# Altium integrated library con-amp.IntLib: 238 symbols (part 2 of 3)
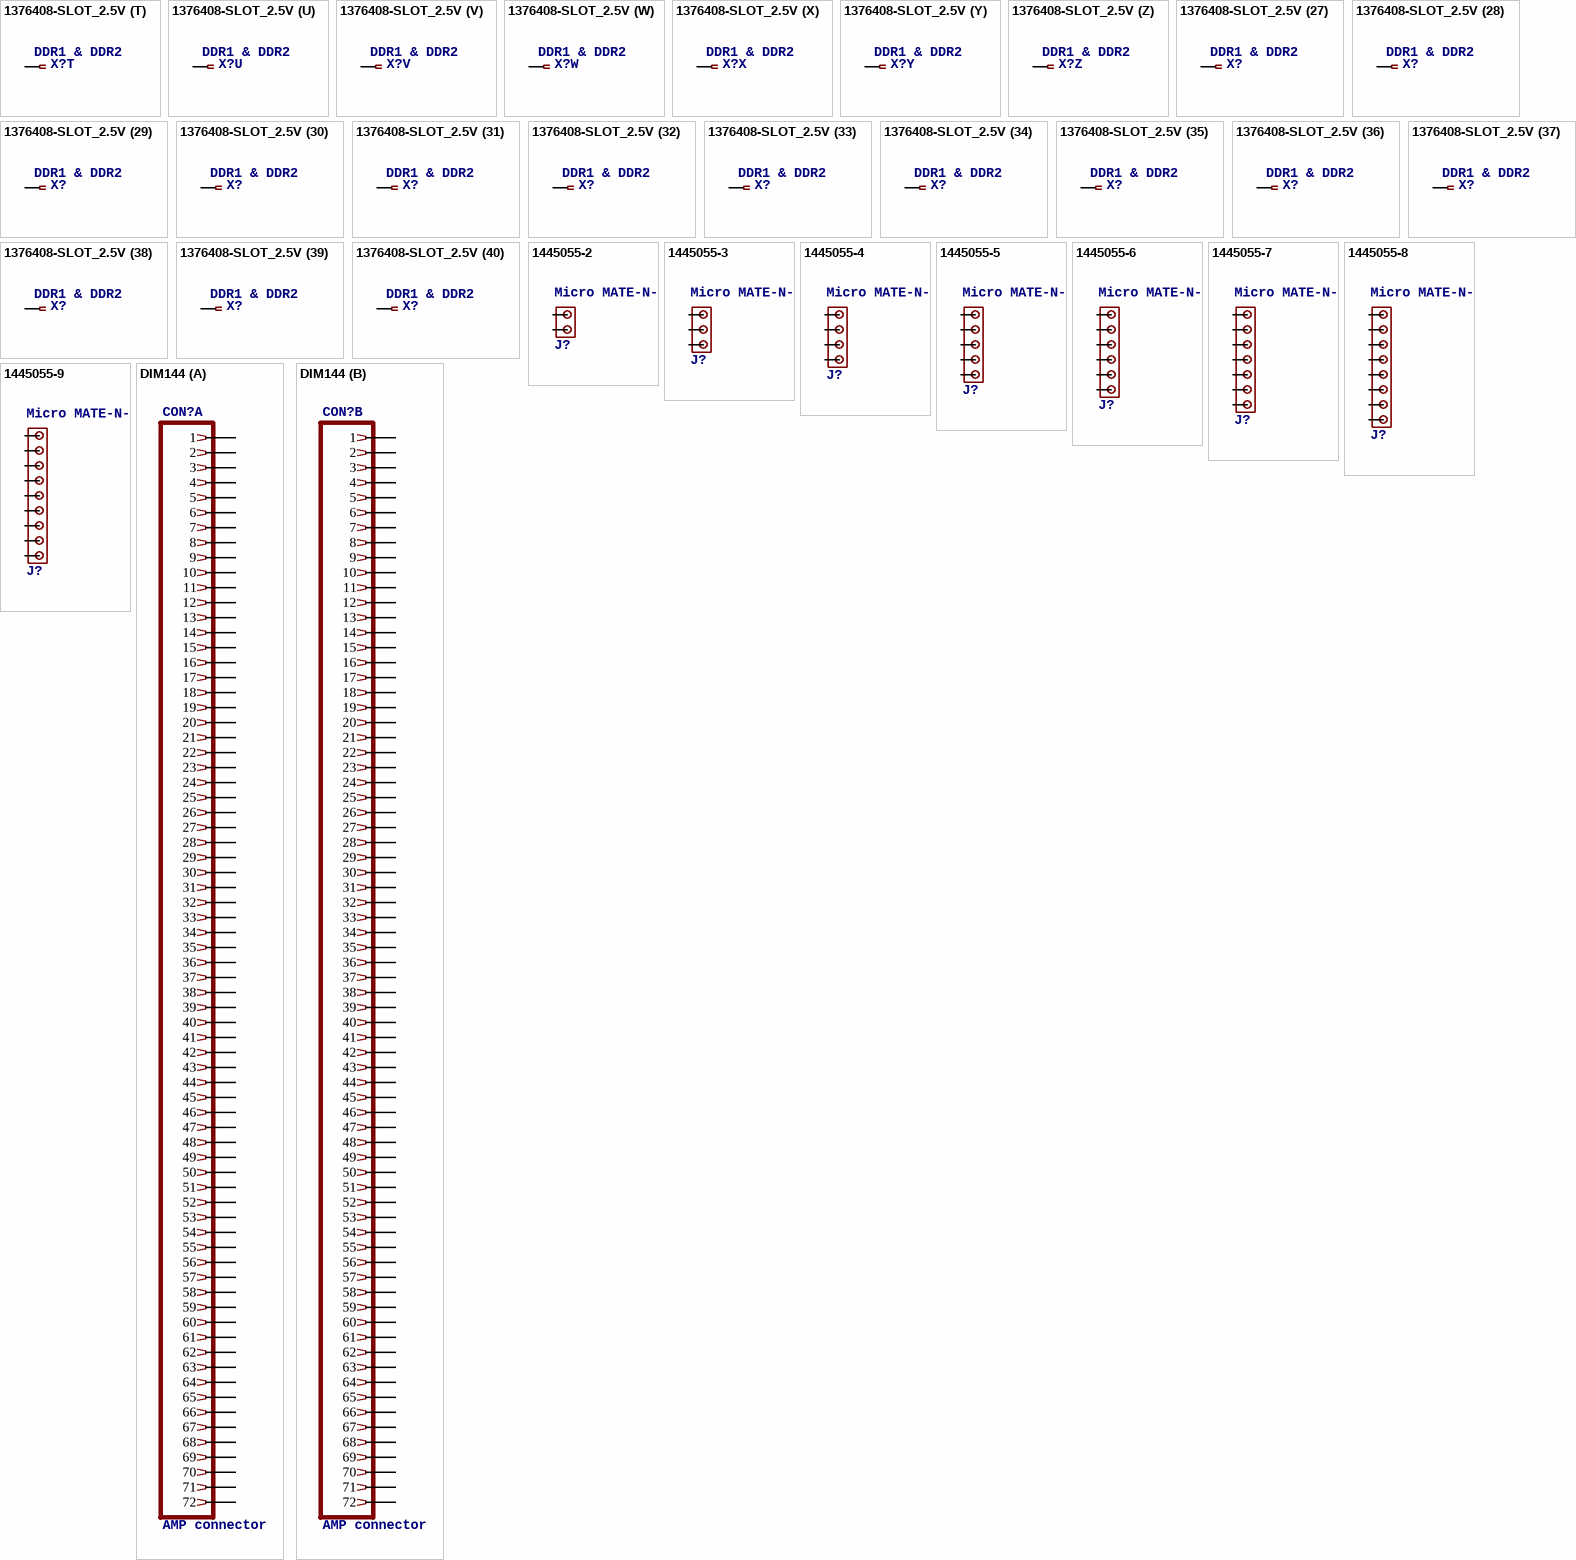
[diagram p35: symbols 1376408-SLOT_2.5V to DIM144]

## 1445055-5
designator J?, comment Micro MATE-N-LOK Connectors grid 1.5 mm   Source: ENG_CD_1445055_A.pdf
footprint 1445055-5
pins: 1, 2, 3, 4, 5

## 1445055-6
designator J?, comment Micro MATE-N-LOK Connectors grid 1.5 mm   Source: ENG_CD_1445055_A.pdf
footprint 1445055-6
pins: 1, 2, 3, 4, 5, 6

## 1445055-7
designator J?, comment Micro MATE-N-LOK Connectors grid 1.5 mm   Source: ENG_CD_1445055_A.pdf
footprint 1445055-7
pins: 1, 2, 3, 4, 5, 6, 7

## 1445055-8
designator J?, comment Micro MATE-N-LOK Connectors grid 1.5 mm   Source: ENG_CD_1445055_A.pdf
footprint 1445055-8
pins: 1, 2, 3, 4, 5, 6, 7, 8

## 1445055-9
designator J?, comment Micro MATE-N-LOK Connectors grid 1.5 mm   Source: ENG_CD_1445055_A.pdf
footprint 1445055-9
pins: 1, 2, 3, 4, 5, 6, 7, 8, 9

## DIM144
designator CON?, comment AMP connector
footprint 390110-1
part A pins: 1, 2, 3, 4, 5, 6, 7, 8, 9, 10, 11, 12, 13, 14, 15, 16, 17, 18, 19, 20, 21, 22, 23, 24, 25, 26, 27, 28, 29, 30, 31, 32, 33, 34, 35, 36, 37, 38, 39, 40, 41, 42, 43, 44, 45, 46, 47, 48, 49, 50, 51, 52, 53, 54, 55, 56, 57, 58, 59, 60, 61, 62, 63, 64, 65, 66, 67, 68, 69, 70, 71, 72
part B pins: 73 1, 74 2, 75 3, 76 4, 77 5, 78 6, 79 7, 80 8, 81 9, 82 10, 83 11, 84 12, 85 13, 86 14, 87 15, 88 16, 89 17, 90 18, 91 19, 92 20, 93 21, 94 22, 95 23, 96 24, 97 25, 98 26, 99 27, 100 28, 101 29, 102 30, 103 31, 104 32, 105 33, 106 34, 107 35, 108 36, 109 37, 110 38, 111 39, 112 40, 113 41, 114 42, 115 43, 116 44, 117 45, 118 46, 119 47, 120 48, 121 49, 122 50, 123 51, 124 52, 125 53, 126 54, 127 55, 128 56, 129 57, 130 58, 131 59, 132 60, 133 61, 134 62, 135 63, 136 64, 137 65, 138 66, 139 67, 140 68, 141 69, 142 70, 143 71, 144 72

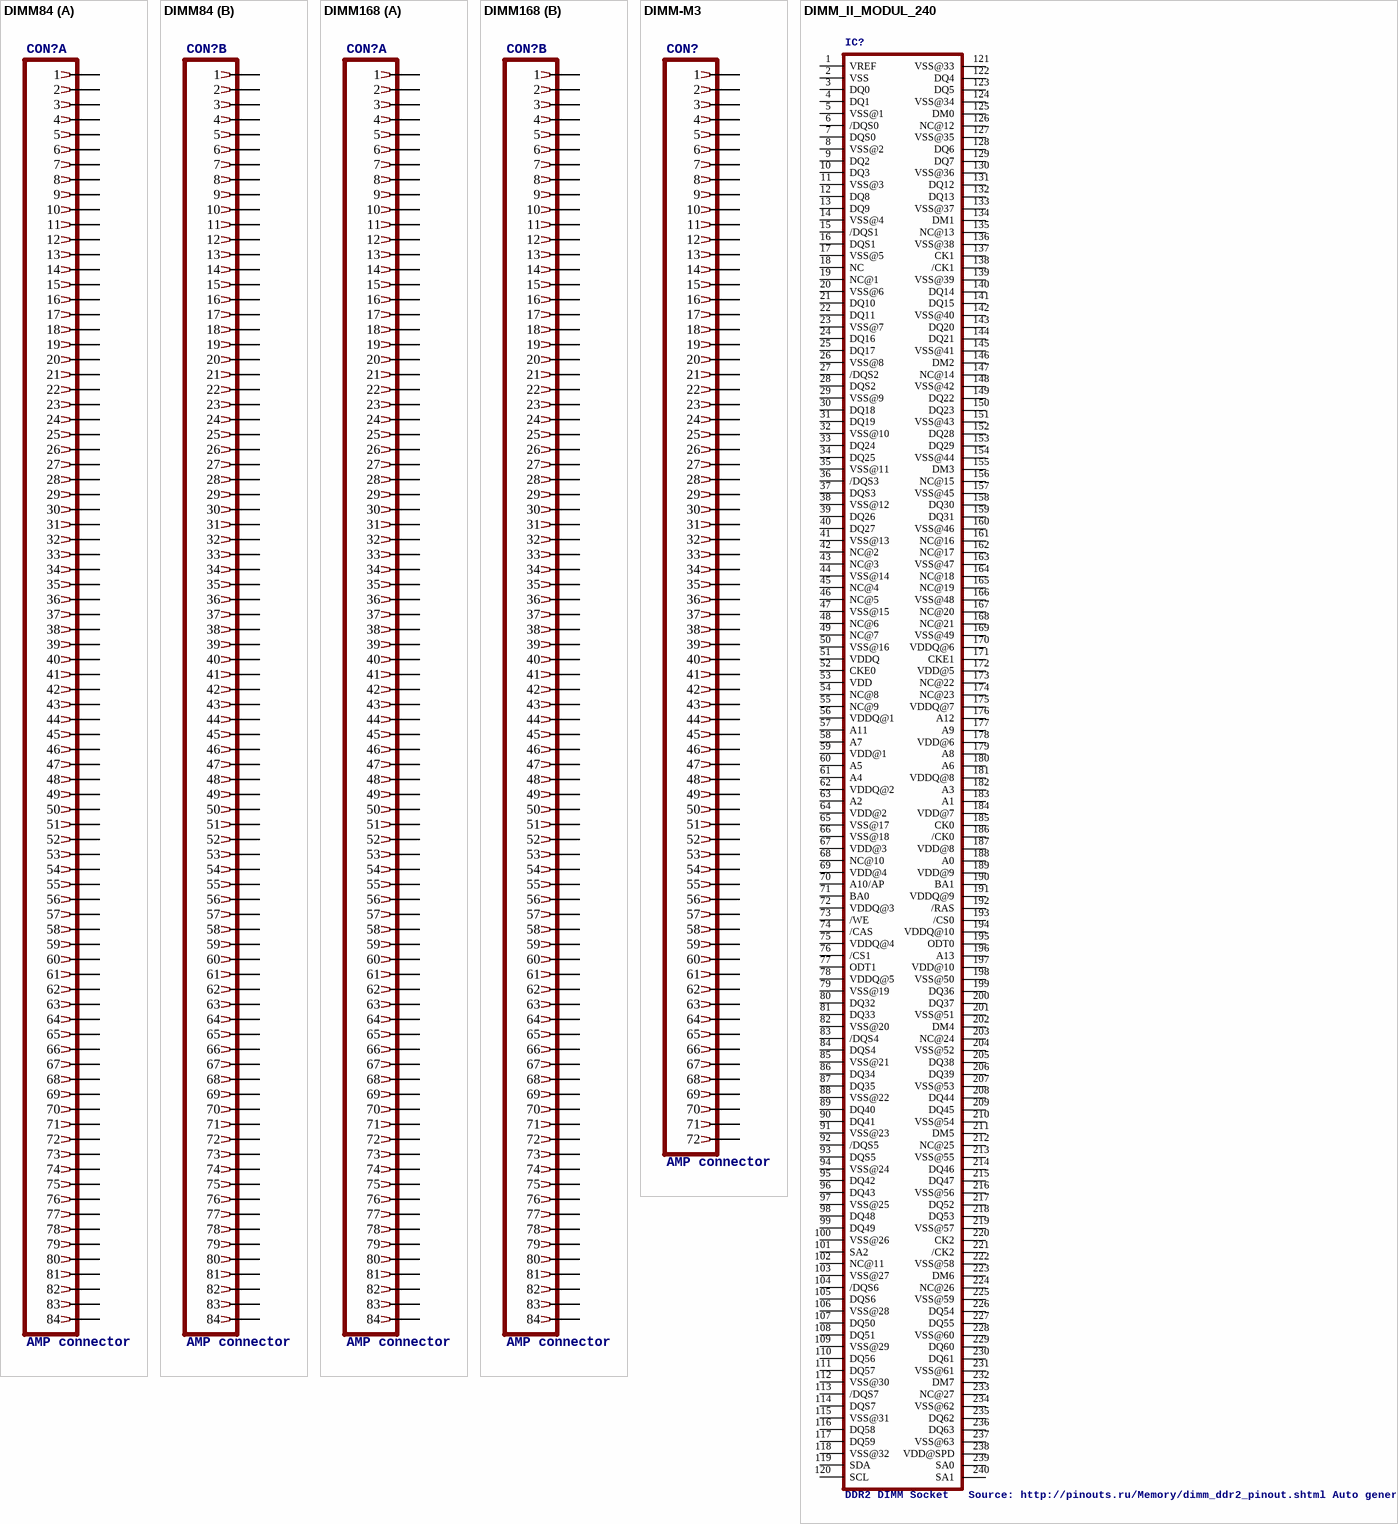
[diagram p11: symbols DIMM84 to DIMM_II_MODUL_240]

## DIMM84
designator CON?, comment AMP connector
footprint 382830-1
part A pins: 1, 2, 3, 4, 5, 6, 7, 8, 9, 10, 11, 12, 13, 14, 15, 16, 17, 18, 19, 20, 21, 22, 23, 24, 25, 26, 27, 28, 29, 30, 31, 32, 33, 34, 35, 36, 37, 38, 39, 40, 41, 42, 43, 44, 45, 46, 47, 48, 49, 50, 51, 52, 53, 54, 55, 56, 57, 58, 59, 60, 61, 62, 63, 64, 65, 66, 67, 68, 69, 70, 71, 72, 73, 74, 75, 76, 77, 78, 79, 80, 81, 82, 83, 84
part B pins: 85 1, 86 2, 87 3, 88 4, 89 5, 90 6, 91 7, 92 8, 93 9, 94 10, 95 11, 96 12, 97 13, 98 14, 99 15, 100 16, 101 17, 102 18, 103 19, 104 20, 105 21, 106 22, 107 23, 108 24, 109 25, 110 26, 111 27, 112 28, 113 29, 114 30, 115 31, 116 32, 117 33, 118 34, 119 35, 120 36, 121 37, 122 38, 123 39, 124 40, 125 41, 126 42, 127 43, 128 44, 129 45, 130 46, 131 47, 132 48, 133 49, 134 50, 135 51, 136 52, 137 53, 138 54, 139 55, 140 56, 141 57, 142 58, 143 59, 144 60, 145 61, 146 62, 147 63, 148 64, 149 65, 150 66, 151 67, 152 68, 153 69, 154 70, 155 71, 156 72, 157 73, 158 74, 159 75, 160 76, 161 77, 162 78, 163 79, 164 80, 165 81, 166 82, 167 83, 168 84

## DIMM168
designator CON?, comment AMP connector
footprint 390052-4
part A pins: 1, 2, 3, 4, 5, 6, 7, 8, 9, 10, 11, 12, 13, 14, 15, 16, 17, 18, 19, 20, 21, 22, 23, 24, 25, 26, 27, 28, 29, 30, 31, 32, 33, 34, 35, 36, 37, 38, 39, 40, 41, 42, 43, 44, 45, 46, 47, 48, 49, 50, 51, 52, 53, 54, 55, 56, 57, 58, 59, 60, 61, 62, 63, 64, 65, 66, 67, 68, 69, 70, 71, 72, 73, 74, 75, 76, 77, 78, 79, 80, 81, 82, 83, 84
part B pins: 85 1, 86 2, 87 3, 88 4, 89 5, 90 6, 91 7, 92 8, 93 9, 94 10, 95 11, 96 12, 97 13, 98 14, 99 15, 100 16, 101 17, 102 18, 103 19, 104 20, 105 21, 106 22, 107 23, 108 24, 109 25, 110 26, 111 27, 112 28, 113 29, 114 30, 115 31, 116 32, 117 33, 118 34, 119 35, 120 36, 121 37, 122 38, 123 39, 124 40, 125 41, 126 42, 127 43, 128 44, 129 45, 130 46, 131 47, 132 48, 133 49, 134 50, 135 51, 136 52, 137 53, 138 54, 139 55, 140 56, 141 57, 142 58, 143 59, 144 60, 145 61, 146 62, 147 63, 148 64, 149 65, 150 66, 151 67, 152 68, 153 69, 154 70, 155 71, 156 72, 157 73, 158 74, 159 75, 160 76, 161 77, 162 78, 163 79, 164 80, 165 81, 166 82, 167 83, 168 84

## DIMM-M3
designator CON?, comment AMP connector
footprint 177827-1
pins: 1, 2, 3, 4, 5, 6, 7, 8, 9, 10, 11, 12, 13, 14, 15, 16, 17, 18, 19, 20, 21, 22, 23, 24, 25, 26, 27, 28, 29, 30, 31, 32, 33, 34, 35, 36, 37, 38, 39, 40, 41, 42, 43, 44, 45, 46, 47, 48, 49, 50, 51, 52, 53, 54, 55, 56, 57, 58, 59, 60, 61, 62, 63, 64, 65, 66, 67, 68, 69, 70, 71, 72

## DIMM_II_MODUL_240
designator IC?, comment DDR2 DIMM Socket   Source: http://pinouts.ru/Memory/dimm_ddr2_pinout.shtml Auto generated by make-symbol-device-package-bsdl.ulp Rev. 20
footprint 1734773-DDR2
pins: 1 VREF, 2 VSS, 3 DQ0, 4 DQ1, 5 VSS@1, 6 /DQS0, 7 DQS0, 8 VSS@2, 9 DQ2, 10 DQ3, 11 VSS@3, 12 DQ8, 13 DQ9, 14 VSS@4, 15 /DQS1, 16 DQS1, 17 VSS@5, 18 NC, 19 NC@1, 20 VSS@6, 21 DQ10, 22 DQ11, 23 VSS@7, 24 DQ16, 25 DQ17, 26 VSS@8, 27 /DQS2, 28 DQS2, 29 VSS@9, 30 DQ18, 31 DQ19, 32 VSS@10, 33 DQ24, 34 DQ25, 35 VSS@11, 36 /DQS3, 37 DQS3, 38 VSS@12, 39 DQ26, 40 DQ27, 41 VSS@13, 42 NC@2, 43 NC@3, 44 VSS@14, 45 NC@4, 46 NC@5, 47 VSS@15, 48 NC@6, 49 NC@7, 50 VSS@16, 51 VDDQ, 52 CKE0, 53 VDD, 54 NC@8, 55 NC@9, 56 VDDQ@1, 57 A11, 58 A7, 59 VDD@1, 60 A5, 61 A4, 62 VDDQ@2, 63 A2, 64 VDD@2, 65 VSS@17, 66 VSS@18, 67 VDD@3, 68 NC@10, 69 VDD@4, 70 A10/AP, 71 BA0, 72 VDDQ@3, 73 /WE, 74 /CAS, 75 VDDQ@4, 76 /CS1, 77 ODT1, 78 VDDQ@5, 79 VSS@19, 80 DQ32, 81 DQ33, 82 VSS@20, 83 /DQS4, 84 DQS4, 85 VSS@21, 86 DQ34, 87 DQ35, 88 VSS@22, 89 DQ40, 90 DQ41, 91 VSS@23, 92 /DQS5, 93 DQS5, 94 VSS@24, 95 DQ42, 96 DQ43, 97 VSS@25, 98 DQ48, 99 DQ49, 100 VSS@26, 101 SA2, 102 NC@11, 103 VSS@27, 104 /DQS6, 105 DQS6, 106 VSS@28, 107 DQ50, 108 DQ51, 109 VSS@29, 110 DQ56, 111 DQ57, 112 VSS@30, 113 /DQS7, 114 DQS7, 115 VSS@31, 116 DQ58, 117 DQ59, 118 VSS@32, 119 SDA, 120 SCL, 121 VSS@33, 122 DQ4, 123 DQ5, 124 VSS@34, 125 DM0, 126 NC@12, 127 VSS@35, 128 DQ6, 129 DQ7, 130 VSS@36, 131 DQ12, 132 DQ13, 133 VSS@37, 134 DM1, 135 NC@13, 136 VSS@38, 137 CK1, 138 /CK1, 139 VSS@39, 140 DQ14, 141 DQ15, 142 VSS@40, 143 DQ20, 144 DQ21, 145 VSS@41, 146 DM2, 147 NC@14, 148 VSS@42, 149 DQ22, 150 DQ23, 151 VSS@43, 152 DQ28, 153 DQ29, 154 VSS@44, 155 DM3, 156 NC@15, 157 VSS@45, 158 DQ30, 159 DQ31, 160 VSS@46, 161 NC@16, 162 NC@17, 163 VSS@47, 164 NC@18, 165 NC@19, 166 VSS@48, 167 NC@20, 168 NC@21, 169 VSS@49, 170 VDDQ@6, 171 CKE1, 172 VDD@5, 173 NC@22, 174 NC@23, 175 VDDQ@7, 176 A12, 177 A9, 178 VDD@6, 179 A8, 180 A6, 181 VDDQ@8, 182 A3, 183 A1, 184 VDD@7, 185 CK0, 186 /CK0, 187 VDD@8, 188 A0, 189 VDD@9, 190 BA1, 191 VDDQ@9, 192 /RAS, 193 /CS0, 194 VDDQ@10, 195 ODT0, 196 A13, 197 VDD@10, 198 VSS@50, 199 DQ36, 200 DQ37, 201 VSS@51, 202 DM4, 203 NC@24, 204 VSS@52, 205 DQ38, 206 DQ39, 207 VSS@53, 208 DQ44, 209 DQ45, 210 VSS@54, 211 DM5, 212 NC@25, 213 VSS@55, 214 DQ46, 215 DQ47, 216 VSS@56, 217 DQ52, 218 DQ53, 219 VSS@57, 220 CK2, 221 /CK2, 222 VSS@58, 223 DM6, 224 NC@26, 225 VSS@59, 226 DQ54, 227 DQ55, 228 VSS@60, 229 DQ60, 230 DQ61, 231 VSS@61, 232 DM7, 233 NC@27, 234 VSS@62, 235 DQ62, 236 DQ63, 237 VSS@63, 238 VDD@SPD, 239 SA0, 240 SA1

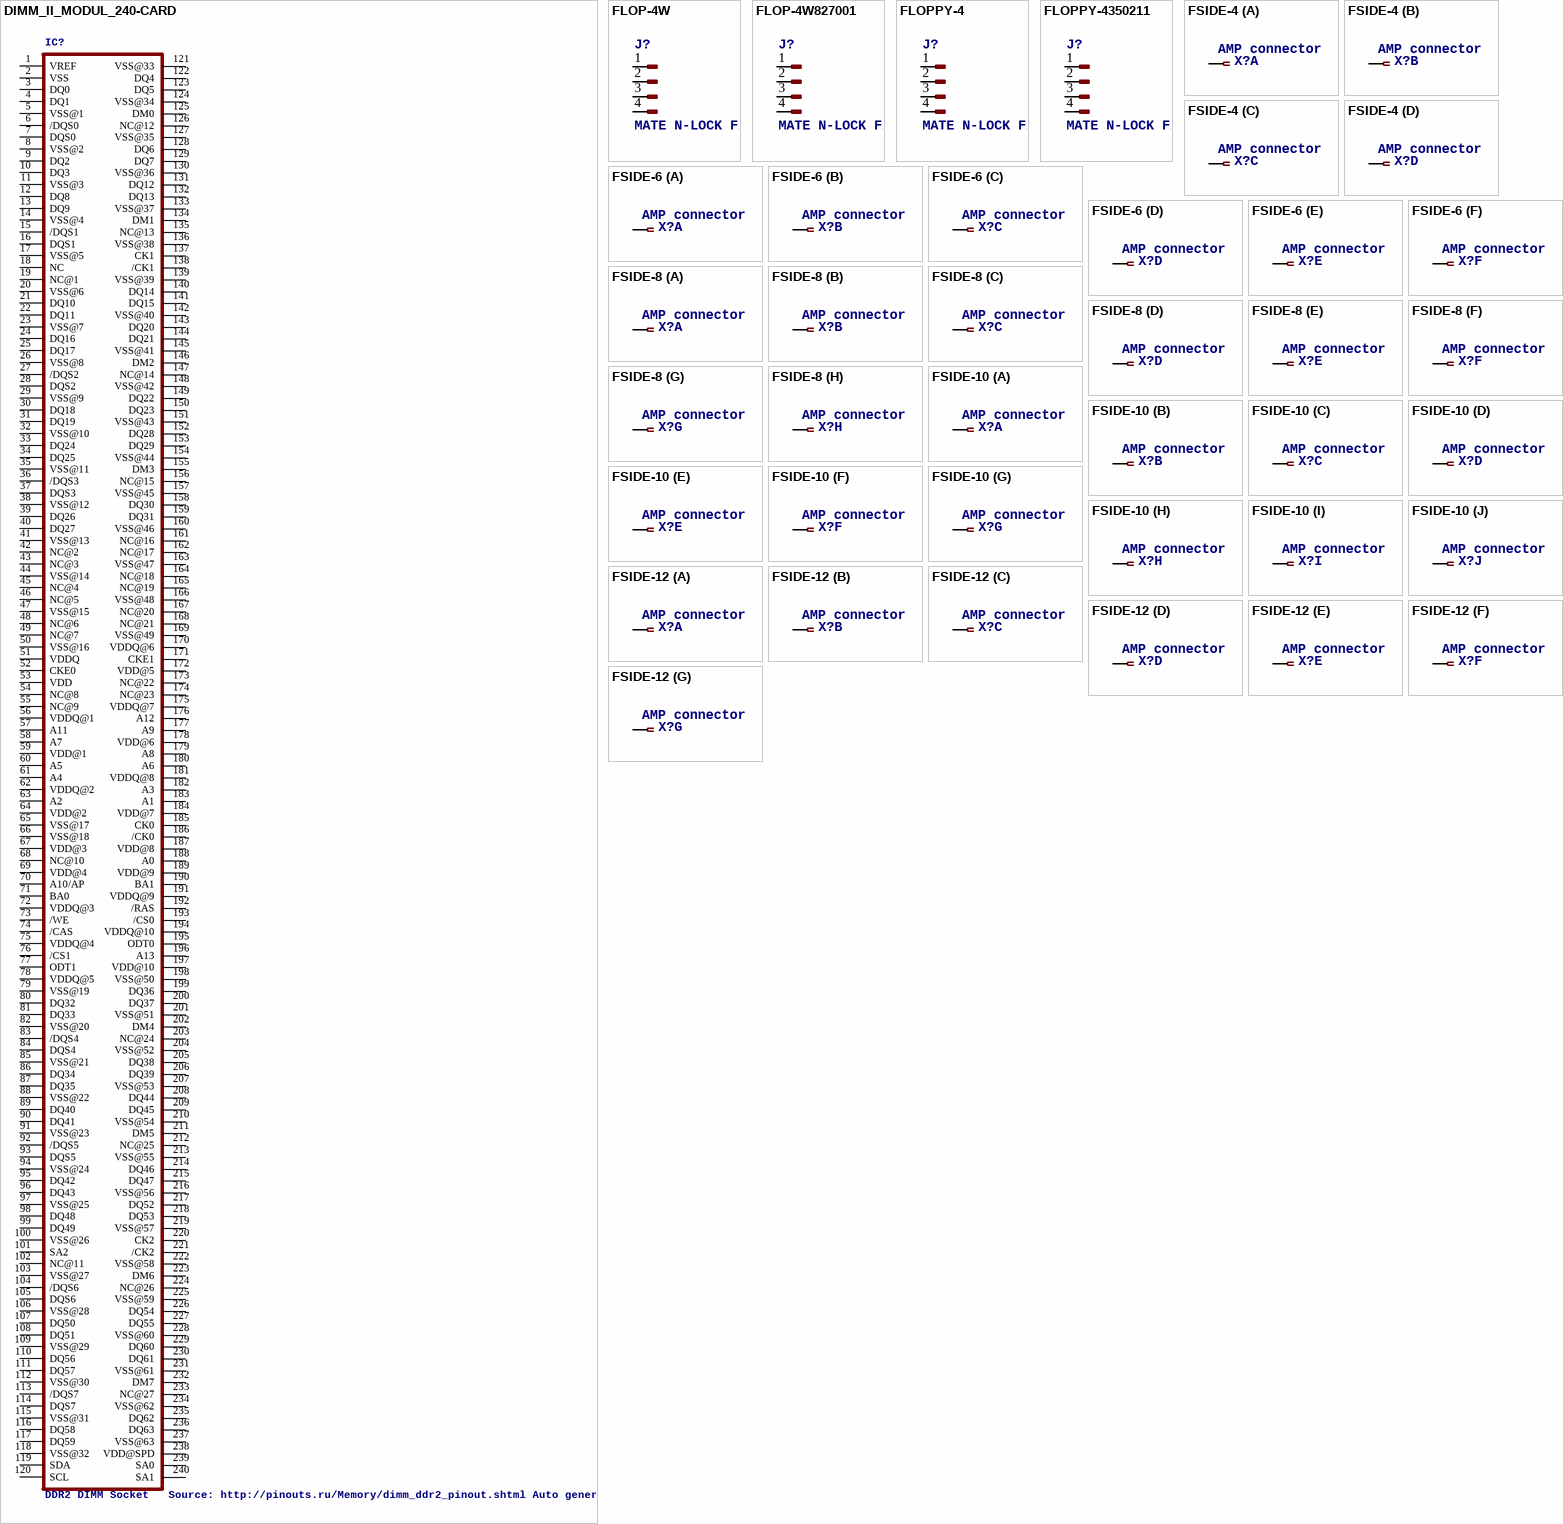
[diagram p12: symbols DIMM_II_MODUL_240-CARD to FSIDE-12]

## DIMM_II_MODUL_240-CARD
designator IC?, comment DDR2 DIMM Socket   Source: http://pinouts.ru/Memory/dimm_ddr2_pinout.shtml Auto generated by make-symbol-device-package-bsdl.ulp Rev. 20
footprint DIMII-240
pins: 1 VREF, 2 VSS, 3 DQ0, 4 DQ1, 5 VSS@1, 6 /DQS0, 7 DQS0, 8 VSS@2, 9 DQ2, 10 DQ3, 11 VSS@3, 12 DQ8, 13 DQ9, 14 VSS@4, 15 /DQS1, 16 DQS1, 17 VSS@5, 18 NC, 19 NC@1, 20 VSS@6, 21 DQ10, 22 DQ11, 23 VSS@7, 24 DQ16, 25 DQ17, 26 VSS@8, 27 /DQS2, 28 DQS2, 29 VSS@9, 30 DQ18, 31 DQ19, 32 VSS@10, 33 DQ24, 34 DQ25, 35 VSS@11, 36 /DQS3, 37 DQS3, 38 VSS@12, 39 DQ26, 40 DQ27, 41 VSS@13, 42 NC@2, 43 NC@3, 44 VSS@14, 45 NC@4, 46 NC@5, 47 VSS@15, 48 NC@6, 49 NC@7, 50 VSS@16, 51 VDDQ, 52 CKE0, 53 VDD, 54 NC@8, 55 NC@9, 56 VDDQ@1, 57 A11, 58 A7, 59 VDD@1, 60 A5, 61 A4, 62 VDDQ@2, 63 A2, 64 VDD@2, 65 VSS@17, 66 VSS@18, 67 VDD@3, 68 NC@10, 69 VDD@4, 70 A10/AP, 71 BA0, 72 VDDQ@3, 73 /WE, 74 /CAS, 75 VDDQ@4, 76 /CS1, 77 ODT1, 78 VDDQ@5, 79 VSS@19, 80 DQ32, 81 DQ33, 82 VSS@20, 83 /DQS4, 84 DQS4, 85 VSS@21, 86 DQ34, 87 DQ35, 88 VSS@22, 89 DQ40, 90 DQ41, 91 VSS@23, 92 /DQS5, 93 DQS5, 94 VSS@24, 95 DQ42, 96 DQ43, 97 VSS@25, 98 DQ48, 99 DQ49, 100 VSS@26, 101 SA2, 102 NC@11, 103 VSS@27, 104 /DQS6, 105 DQS6, 106 VSS@28, 107 DQ50, 108 DQ51, 109 VSS@29, 110 DQ56, 111 DQ57, 112 VSS@30, 113 /DQS7, 114 DQS7, 115 VSS@31, 116 DQ58, 117 DQ59, 118 VSS@32, 119 SDA, 120 SCL, 121 VSS@33, 122 DQ4, 123 DQ5, 124 VSS@34, 125 DM0, 126 NC@12, 127 VSS@35, 128 DQ6, 129 DQ7, 130 VSS@36, 131 DQ12, 132 DQ13, 133 VSS@37, 134 DM1, 135 NC@13, 136 VSS@38, 137 CK1, 138 /CK1, 139 VSS@39, 140 DQ14, 141 DQ15, 142 VSS@40, 143 DQ20, 144 DQ21, 145 VSS@41, 146 DM2, 147 NC@14, 148 VSS@42, 149 DQ22, 150 DQ23, 151 VSS@43, 152 DQ28, 153 DQ29, 154 VSS@44, 155 DM3, 156 NC@15, 157 VSS@45, 158 DQ30, 159 DQ31, 160 VSS@46, 161 NC@16, 162 NC@17, 163 VSS@47, 164 NC@18, 165 NC@19, 166 VSS@48, 167 NC@20, 168 NC@21, 169 VSS@49, 170 VDDQ@6, 171 CKE1, 172 VDD@5, 173 NC@22, 174 NC@23, 175 VDDQ@7, 176 A12, 177 A9, 178 VDD@6, 179 A8, 180 A6, 181 VDDQ@8, 182 A3, 183 A1, 184 VDD@7, 185 CK0, 186 /CK0, 187 VDD@8, 188 A0, 189 VDD@9, 190 BA1, 191 VDDQ@9, 192 /RAS, 193 /CS0, 194 VDDQ@10, 195 ODT0, 196 A13, 197 VDD@10, 198 VSS@50, 199 DQ36, 200 DQ37, 201 VSS@51, 202 DM4, 203 NC@24, 204 VSS@52, 205 DQ38, 206 DQ39, 207 VSS@53, 208 DQ44, 209 DQ45, 210 VSS@54, 211 DM5, 212 NC@25, 213 VSS@55, 214 DQ46, 215 DQ47, 216 VSS@56, 217 DQ52, 218 DQ53, 219 VSS@57, 220 CK2, 221 /CK2, 222 VSS@58, 223 DM6, 224 NC@26, 225 VSS@59, 226 DQ54, 227 DQ55, 228 VSS@60, 229 DQ60, 230 DQ61, 231 VSS@61, 232 DM7, 233 NC@27, 234 VSS@62, 235 DQ62, 236 DQ63, 237 VSS@63, 238 VDD@SPD, 239 SA0, 240 SA1

## FLOP-4W
designator J?, comment MATE N-LOCK Floppy / HDD conector   Distributor: Bürklin 71F972
footprint FLOP-4V
pins: 1, 2, 3, 4

## FLOP-4W827001
designator J?, comment MATE N-LOCK Floppy / HDD conector   Distributor: Bürklin 71F972
footprint 827001
pins: 1, 2, 3, 4

## FLOPPY-4
designator J?, comment MATE N-LOCK Floppy / HDD conector   Distributor: Bürklin 71F970
footprint FLOPPY-4
pins: 1, 2, 3, 4

## FLOPPY-4350211
designator J?, comment MATE N-LOCK Floppy / HDD conector   Distributor: Bürklin 71F970
footprint 350211
pins: 1, 2, 3, 4

## FSIDE-4
designator X?, comment AMP connector
footprint FSIDE-4
part A pins: 1
part B pins: 2 1
part C pins: 3 1
part D pins: 4 1

## FSIDE-6
designator X?, comment AMP connector
footprint FSIDE-6
part A pins: 1
part B pins: 2 1
part C pins: 3 1
part D pins: 4 1
part E pins: 5 1
part F pins: 6 1

## FSIDE-8
designator X?, comment AMP connector
footprint FSIDE-8
part A pins: 1
part B pins: 2 1
part C pins: 3 1
part D pins: 4 1
part E pins: 5 1
part F pins: 6 1
part G pins: 7 1
part H pins: 8 1

## FSIDE-10
designator X?, comment AMP connector
footprint FSIDE-10
part A pins: 1
part B pins: 2 1
part C pins: 3 1
part D pins: 4 1
part E pins: 5 1
part F pins: 6 1
part G pins: 7 1
part H pins: 8 1
part I pins: 9 1
part J pins: 10 1

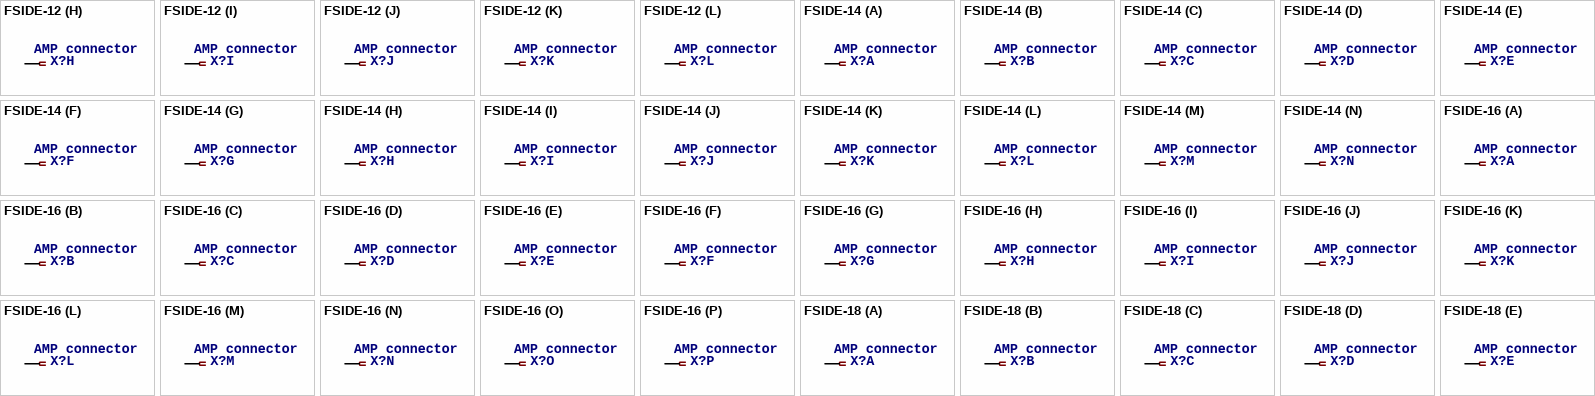
[diagram p13: symbols FSIDE-12 to FSIDE-18]

## FSIDE-12
designator X?, comment AMP connector
footprint FSIDE-12
part A pins: 1
part B pins: 2 1
part C pins: 3 1
part D pins: 4 1
part E pins: 5 1
part F pins: 6 1
part G pins: 7 1
part H pins: 8 1
part I pins: 9 1
part J pins: 10 1
part K pins: 11 1
part L pins: 12 1

## FSIDE-14
designator X?, comment AMP connector
footprint FSIDE-14
part A pins: 1
part B pins: 2 1
part C pins: 3 1
part D pins: 4 1
part E pins: 5 1
part F pins: 6 1
part G pins: 7 1
part H pins: 8 1
part I pins: 9 1
part J pins: 10 1
part K pins: 11 1
part L pins: 12 1
part M pins: 13 1
part N pins: 14 1

## FSIDE-16
designator X?, comment AMP connector
footprint FSIDE-16
part A pins: 1
part B pins: 2 1
part C pins: 3 1
part D pins: 4 1
part E pins: 5 1
part F pins: 6 1
part G pins: 7 1
part H pins: 8 1
part I pins: 9 1
part J pins: 10 1
part K pins: 11 1
part L pins: 12 1
part M pins: 13 1
part N pins: 14 1
part O pins: 15 1
part P pins: 16 1

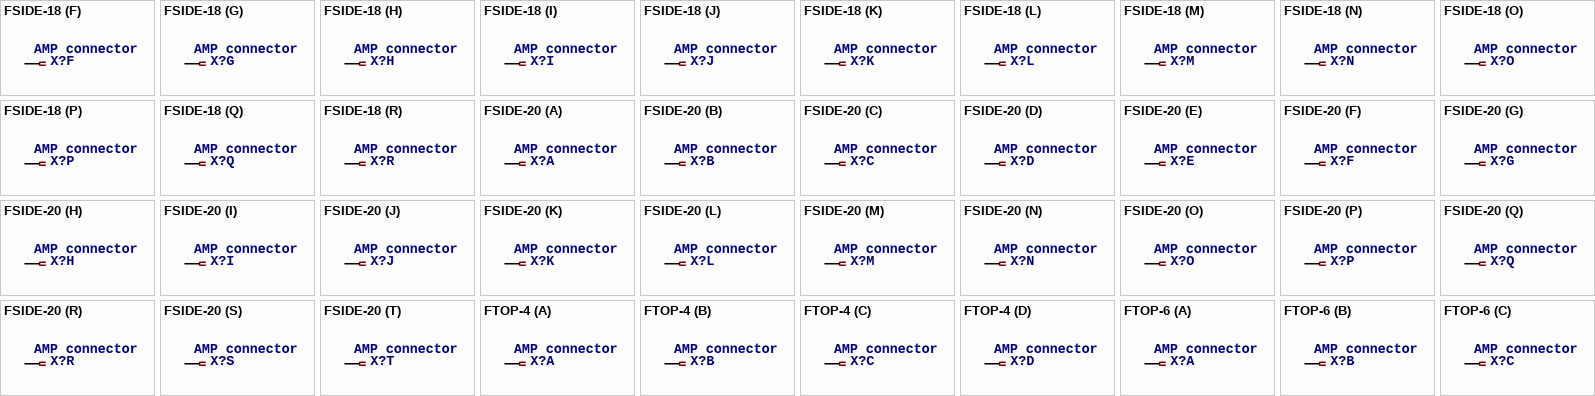
[diagram p14: symbols FSIDE-18 to FTOP-6]

## FSIDE-18
designator X?, comment AMP connector
footprint FSIDE-18
part A pins: 1
part B pins: 2 1
part C pins: 3 1
part D pins: 4 1
part E pins: 5 1
part F pins: 6 1
part G pins: 7 1
part H pins: 8 1
part I pins: 9 1
part J pins: 10 1
part K pins: 11 1
part L pins: 12 1
part M pins: 13 1
part N pins: 14 1
part O pins: 15 1
part P pins: 16 1
part Q pins: 17 1
part R pins: 18 1

## FSIDE-20
designator X?, comment AMP connector
footprint FSIDE-20
part A pins: 1
part B pins: 2 1
part C pins: 3 1
part D pins: 4 1
part E pins: 5 1
part F pins: 6 1
part G pins: 7 1
part H pins: 8 1
part I pins: 9 1
part J pins: 10 1
part K pins: 11 1
part L pins: 12 1
part M pins: 13 1
part N pins: 14 1
part O pins: 15 1
part P pins: 16 1
part Q pins: 17 1
part R pins: 18 1
part S pins: 19 1
part T pins: 20 1

## FTOP-4
designator X?, comment AMP connector
footprint FTOP-4
part A pins: 1
part B pins: 2 1
part C pins: 3 1
part D pins: 4 1

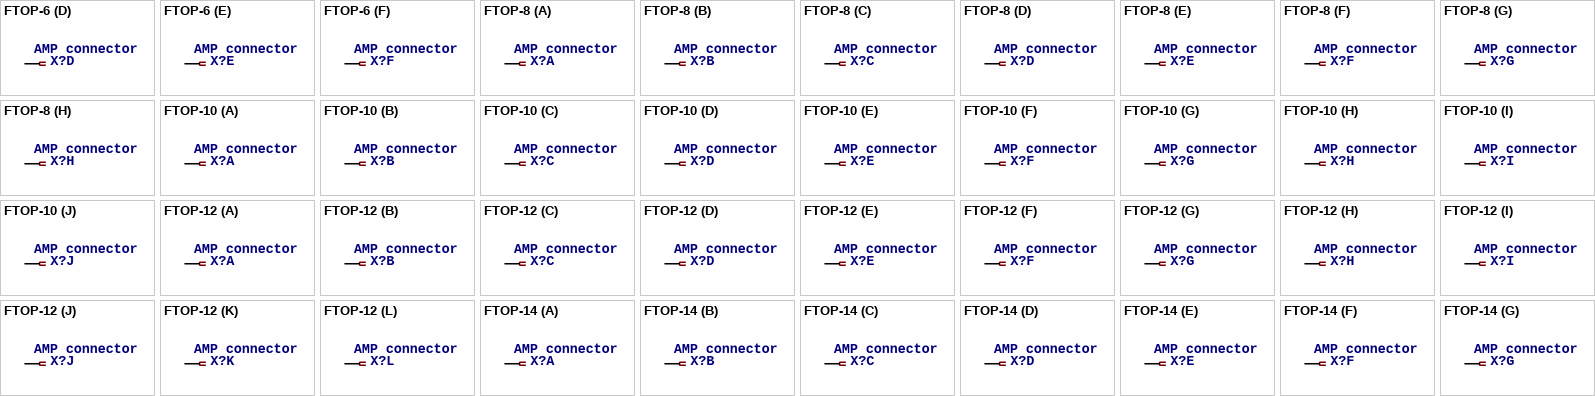
[diagram p15: symbols FTOP-6 to FTOP-14]

## FTOP-6
designator X?, comment AMP connector
footprint FTOP-6
part A pins: 1
part B pins: 2 1
part C pins: 3 1
part D pins: 4 1
part E pins: 5 1
part F pins: 6 1

## FTOP-8
designator X?, comment AMP connector
footprint FTOP-8
part A pins: 1
part B pins: 2 1
part C pins: 3 1
part D pins: 4 1
part E pins: 5 1
part F pins: 6 1
part G pins: 7 1
part H pins: 8 1

## FTOP-10
designator X?, comment AMP connector
footprint FTOP-10
part A pins: 1
part B pins: 2 1
part C pins: 3 1
part D pins: 4 1
part E pins: 5 1
part F pins: 6 1
part G pins: 7 1
part H pins: 8 1
part I pins: 9 1
part J pins: 10 1

## FTOP-12
designator X?, comment AMP connector
footprint FTOP-12
part A pins: 1
part B pins: 2 1
part C pins: 3 1
part D pins: 4 1
part E pins: 5 1
part F pins: 6 1
part G pins: 7 1
part H pins: 8 1
part I pins: 9 1
part J pins: 10 1
part K pins: 11 1
part L pins: 12 1

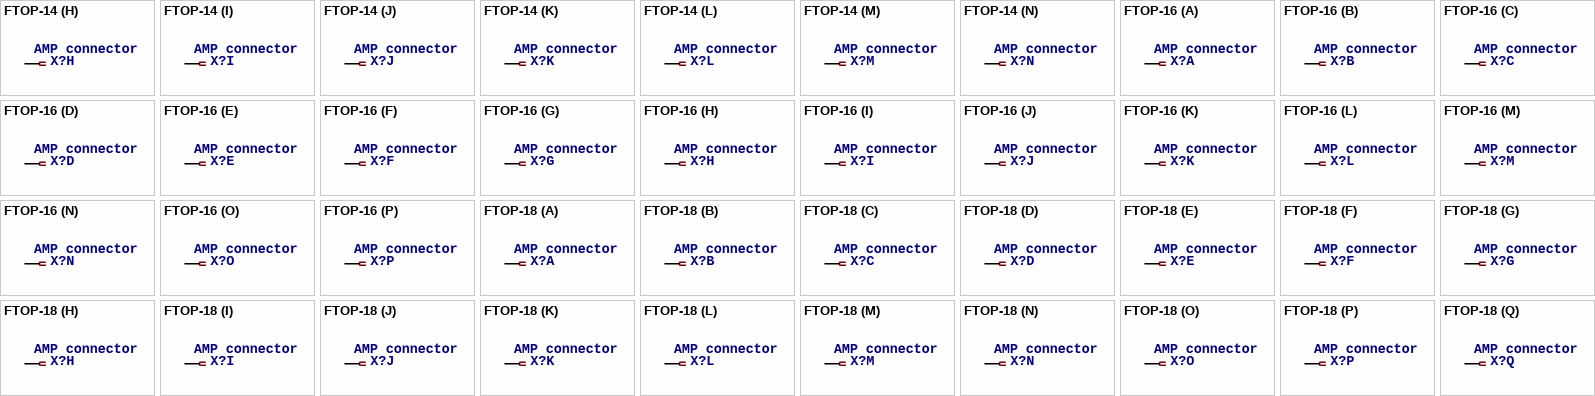
[diagram p16: symbols FTOP-14 to FTOP-18]

## FTOP-14
designator X?, comment AMP connector
footprint FTOP-14
part A pins: 1
part B pins: 2 1
part C pins: 3 1
part D pins: 4 1
part E pins: 5 1
part F pins: 6 1
part G pins: 7 1
part H pins: 8 1
part I pins: 9 1
part J pins: 10 1
part K pins: 11 1
part L pins: 12 1
part M pins: 13 1
part N pins: 14 1

## FTOP-16
designator X?, comment AMP connector
footprint FTOP-16
part A pins: 1
part B pins: 2 1
part C pins: 3 1
part D pins: 4 1
part E pins: 5 1
part F pins: 6 1
part G pins: 7 1
part H pins: 8 1
part I pins: 9 1
part J pins: 10 1
part K pins: 11 1
part L pins: 12 1
part M pins: 13 1
part N pins: 14 1
part O pins: 15 1
part P pins: 16 1

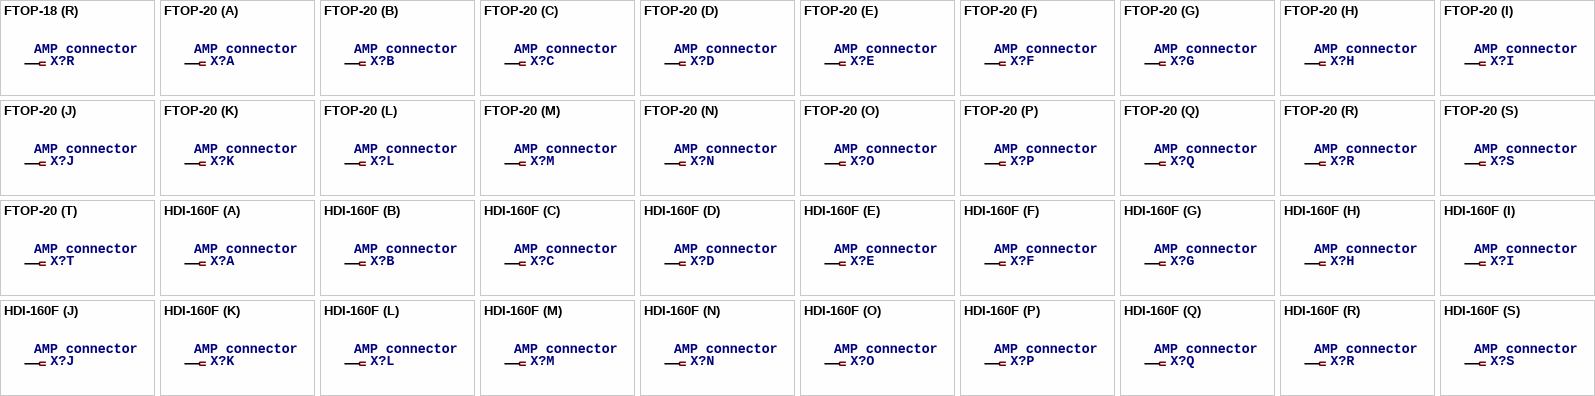
[diagram p17: symbols FTOP-18 to HDI-160F]

## FTOP-18
designator X?, comment AMP connector
footprint FTOP-18
part A pins: 1
part B pins: 2 1
part C pins: 3 1
part D pins: 4 1
part E pins: 5 1
part F pins: 6 1
part G pins: 7 1
part H pins: 8 1
part I pins: 9 1
part J pins: 10 1
part K pins: 11 1
part L pins: 12 1
part M pins: 13 1
part N pins: 14 1
part O pins: 15 1
part P pins: 16 1
part Q pins: 17 1
part R pins: 18 1

## FTOP-20
designator X?, comment AMP connector
footprint FTOP-20
part A pins: 1
part B pins: 2 1
part C pins: 3 1
part D pins: 4 1
part E pins: 5 1
part F pins: 6 1
part G pins: 7 1
part H pins: 8 1
part I pins: 9 1
part J pins: 10 1
part K pins: 11 1
part L pins: 12 1
part M pins: 13 1
part N pins: 14 1
part O pins: 15 1
part P pins: 16 1
part Q pins: 17 1
part R pins: 18 1
part S pins: 19 1
part T pins: 20 1

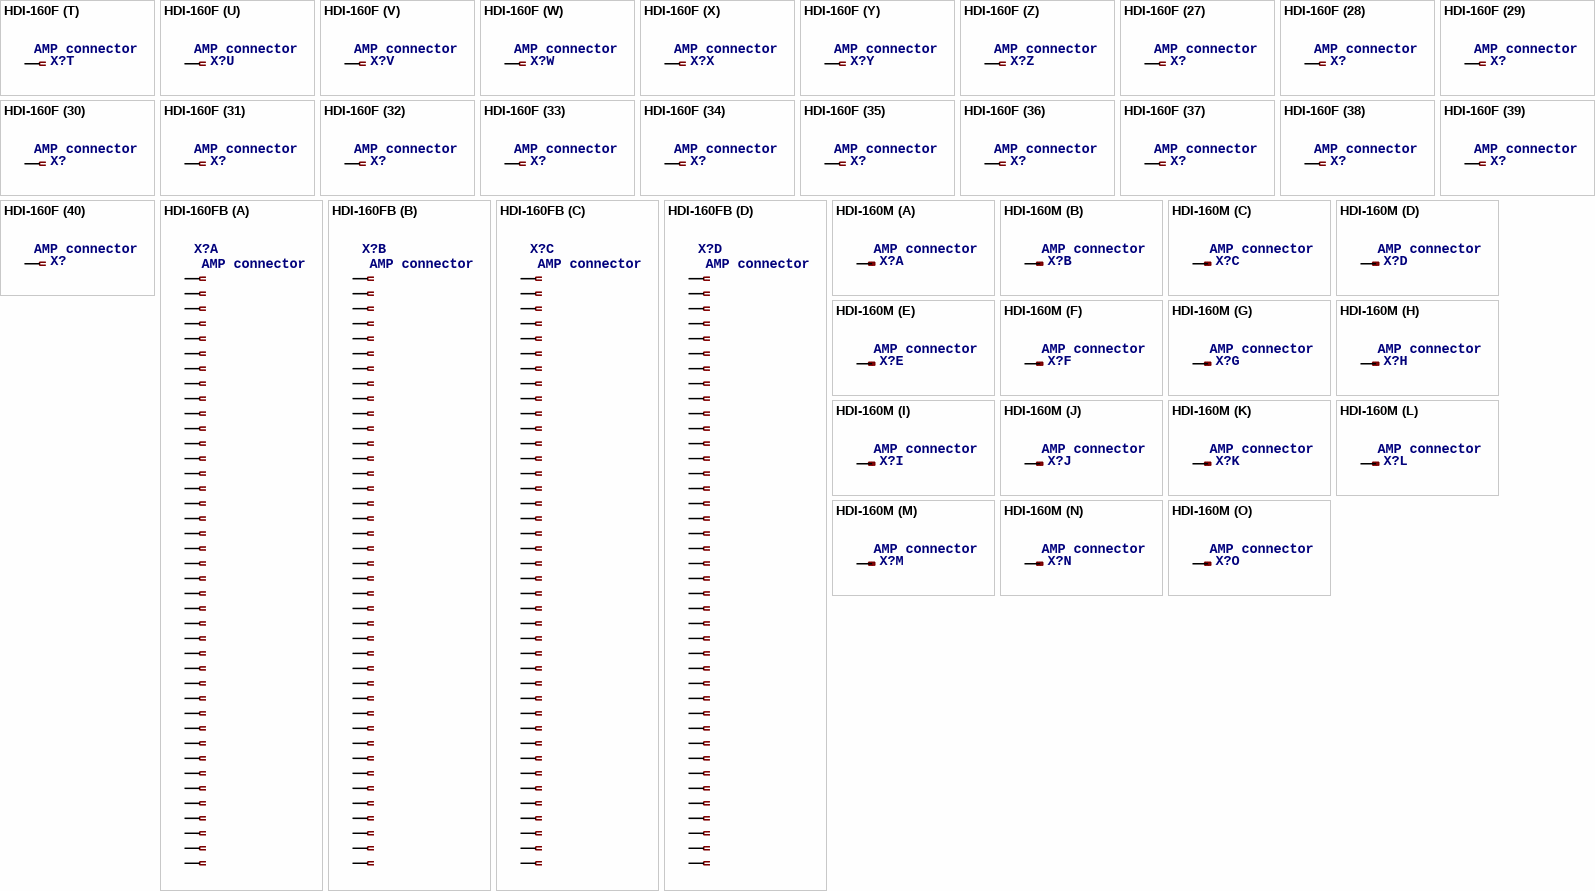
[diagram p18: symbols HDI-160F to HDI-160M]

## HDI-160F
designator X?, comment AMP connector
footprint HDI-160F
part A pins: A1 1
part B pins: A2 1
part C pins: A3 1
part D pins: A4 1
part E pins: A5 1
part F pins: A6 1
part G pins: A7 1
part H pins: A8 1
part I pins: A9 1
part J pins: A10 1
part K pins: A11 1
part L pins: A12 1
part M pins: A13 1
part N pins: A14 1
part O pins: A15 1
part P pins: A16 1
part Q pins: A17 1
part R pins: A18 1
part S pins: A19 1
part T pins: A20 1
part U pins: A21 1
part V pins: A22 1
part W pins: A23 1
part X pins: A24 1
part Y pins: A25 1
part Z pins: A26 1
part 27 pins: A27 1
part 28 pins: A28 1
part 29 pins: A29 1
part 30 pins: A30 1
part 31 pins: A31 1
part 32 pins: A32 1
part 33 pins: A33 1
part 34 pins: A34 1
part 35 pins: A35 1
part 36 pins: A36 1
part 37 pins: A37 1
part 38 pins: A38 1
part 39 pins: A39 1
part 40 pins: A40 1
part 41 pins: B1 1
part 42 pins: B2 1
part 43 pins: B3 1
part 44 pins: B4 1
part 45 pins: B5 1
part 46 pins: B6 1
part 47 pins: B7 1
part 48 pins: B8 1
part 49 pins: B9 1
part 50 pins: B10 1
part 51 pins: B11 1
part 52 pins: B12 1
part 53 pins: B13 1
part 54 pins: B14 1
part 55 pins: B15 1
part 56 pins: B16 1
part 57 pins: B17 1
part 58 pins: B18 1
part 59 pins: B19 1
part 60 pins: B20 1
part 61 pins: B21 1
part 62 pins: B22 1
part 63 pins: B23 1
part 64 pins: B24 1
part 65 pins: B25 1
part 66 pins: B26 1
part 67 pins: B27 1
part 68 pins: B28 1
part 69 pins: B29 1
part 70 pins: B30 1
part 71 pins: B31 1
part 72 pins: B32 1
part 73 pins: B33 1
part 74 pins: B34 1
part 75 pins: B35 1
part 76 pins: B36 1
part 77 pins: B37 1
part 78 pins: B38 1
part 79 pins: B39 1
part 80 pins: B40 1
part 81 pins: C1 1
part 82 pins: C2 1
part 83 pins: C3 1
part 84 pins: C4 1
part 85 pins: C5 1
part 86 pins: C6 1
part 87 pins: C7 1
part 88 pins: C8 1
part 89 pins: C9 1
part 90 pins: C10 1
part 91 pins: C11 1
part 92 pins: C12 1
part 93 pins: C13 1
part 94 pins: C14 1
part 95 pins: C15 1
part 96 pins: C16 1
part 97 pins: C17 1
part 98 pins: C18 1
part 99 pins: C19 1
part 100 pins: C20 1
part 101 pins: C21 1
part 102 pins: C22 1
part 103 pins: C23 1
part 104 pins: C24 1
part 105 pins: C25 1
part 106 pins: C26 1
part 107 pins: C27 1
part 108 pins: C28 1
part 109 pins: C29 1
part 110 pins: C30 1
part 111 pins: C31 1
part 112 pins: C32 1
part 113 pins: C33 1
part 114 pins: C34 1
part 115 pins: C35 1
part 116 pins: C36 1
part 117 pins: C37 1
part 118 pins: C38 1
part 119 pins: C39 1
part 120 pins: C40 1
part 121 pins: D1 1
part 122 pins: D2 1
part 123 pins: D3 1
part 124 pins: D4 1
part 125 pins: D5 1
part 126 pins: D6 1
part 127 pins: D7 1
part 128 pins: D8 1
part 129 pins: D9 1
part 130 pins: D10 1
part 131 pins: D11 1
part 132 pins: D12 1
part 133 pins: D13 1
part 134 pins: D14 1
part 135 pins: D15 1
part 136 pins: D16 1
part 137 pins: D17 1
part 138 pins: D18 1
part 139 pins: D19 1
part 140 pins: D20 1
part 141 pins: D21 1
part 142 pins: D22 1
part 143 pins: D23 1
part 144 pins: D24 1
part 145 pins: D25 1
part 146 pins: D26 1
part 147 pins: D27 1
part 148 pins: D28 1
part 149 pins: D29 1
part 150 pins: D30 1
part 151 pins: D31 1
part 152 pins: D32 1
part 153 pins: D33 1
part 154 pins: D34 1
part 155 pins: D35 1
part 156 pins: D36 1
part 157 pins: D37 1
part 158 pins: D38 1
part 159 pins: D39 1
part 160 pins: D40 1

## HDI-160FB
designator X?, comment AMP connector
footprint HDI-160F
part A pins: A1 1, A2 2, A3 3, A4 4, A5 5, A6 6, A7 7, A8 8, A9 9, A10 10, A11 11, A12 12, A13 13, A14 14, A15 15, A16 16, A17 17, A18 18, A19 19, A20 20, A21 21, A22 22, A23 23, A24 24, A25 25, A26 26, A27 27, A28 28, A29 29, A30 30, A31 31, A32 32, A33 33, A34 34, A35 35, A36 36, A37 37, A38 38, A39 39, A40 40
part B pins: B1 1, B2 2, B3 3, B4 4, B5 5, B6 6, B7 7, B8 8, B9 9, B10 10, B11 11, B12 12, B13 13, B14 14, B15 15, B16 16, B17 17, B18 18, B19 19, B20 20, B21 21, B22 22, B23 23, B24 24, B25 25, B26 26, B27 27, B28 28, B29 29, B30 30, B31 31, B32 32, B33 33, B34 34, B35 35, B36 36, B37 37, B38 38, B39 39, B40 40
part C pins: C1 1, C2 2, C3 3, C4 4, C5 5, C6 6, C7 7, C8 8, C9 9, C10 10, C11 11, C12 12, C13 13, C14 14, C15 15, C16 16, C17 17, C18 18, C19 19, C20 20, C21 21, C22 22, C23 23, C24 24, C25 25, C26 26, C27 27, C28 28, C29 29, C30 30, C31 31, C32 32, C33 33, C34 34, C35 35, C36 36, C37 37, C38 38, C39 39, C40 40
part D pins: D1 1, D2 2, D3 3, D4 4, D5 5, D6 6, D7 7, D8 8, D9 9, D10 10, D11 11, D12 12, D13 13, D14 14, D15 15, D16 16, D17 17, D18 18, D19 19, D20 20, D21 21, D22 22, D23 23, D24 24, D25 25, D26 26, D27 27, D28 28, D29 29, D30 30, D31 31, D32 32, D33 33, D34 34, D35 35, D36 36, D37 37, D38 38, D39 39, D40 40

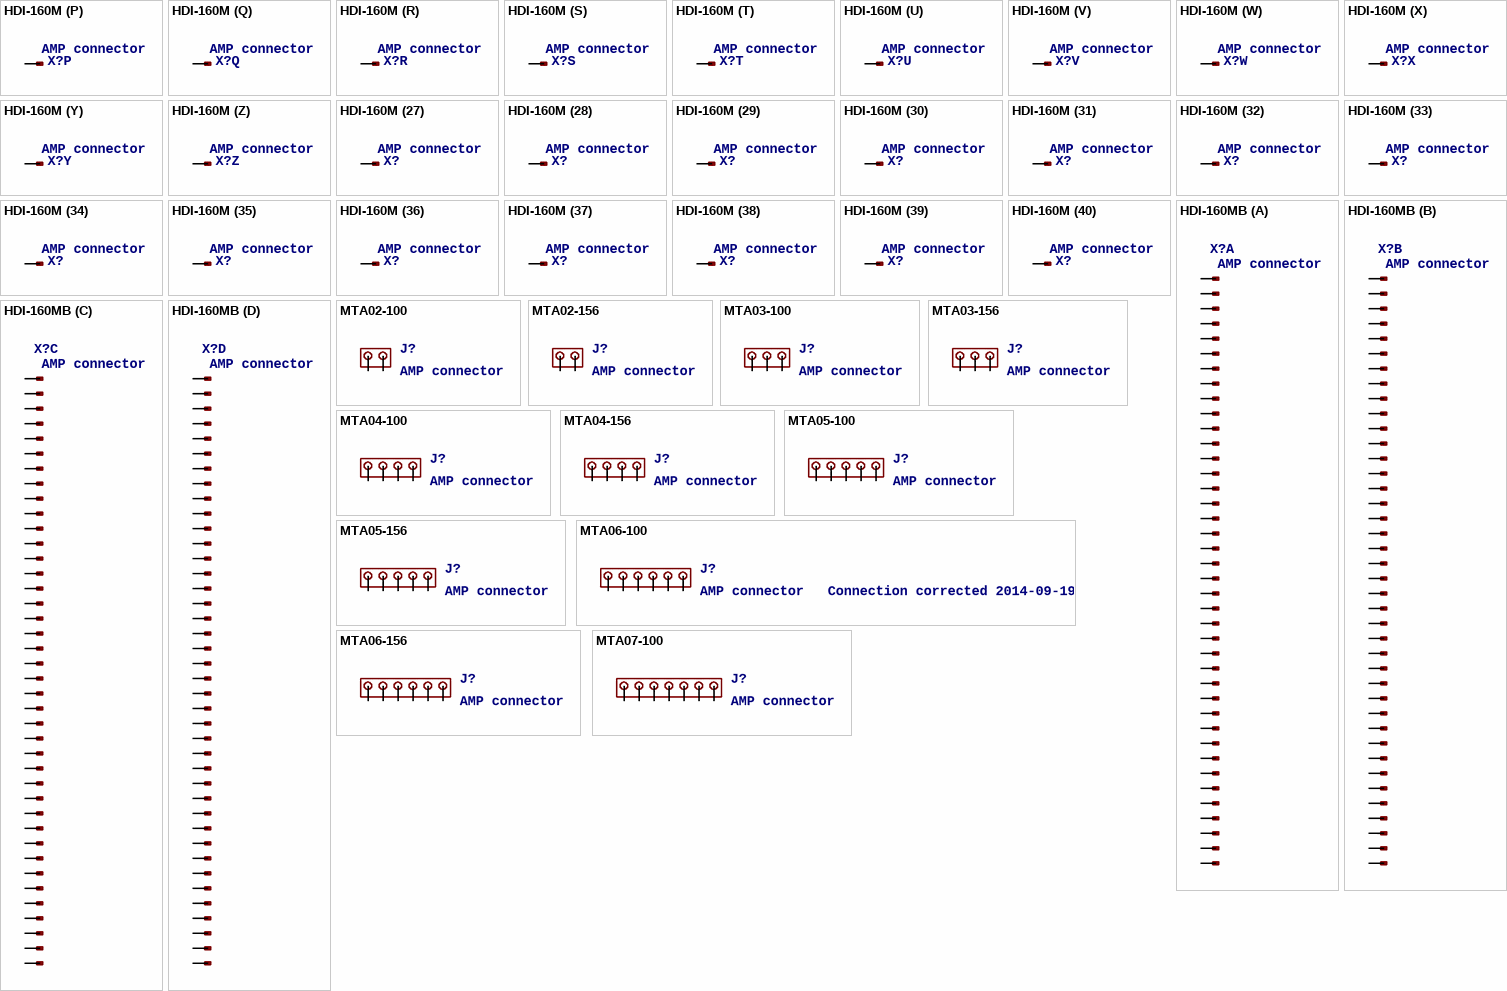
[diagram p19: symbols HDI-160M to MTA07-100]

## HDI-160M
designator X?, comment AMP connector
footprint HDI-160M
part A pins: A1 1
part B pins: A2 1
part C pins: A3 1
part D pins: A4 1
part E pins: A5 1
part F pins: A6 1
part G pins: A7 1
part H pins: A8 1
part I pins: A9 1
part J pins: A10 1
part K pins: A11 1
part L pins: A12 1
part M pins: A13 1
part N pins: A14 1
part O pins: A15 1
part P pins: A16 1
part Q pins: A17 1
part R pins: A18 1
part S pins: A19 1
part T pins: A20 1
part U pins: A21 1
part V pins: A22 1
part W pins: A23 1
part X pins: A24 1
part Y pins: A25 1
part Z pins: A26 1
part 27 pins: A27 1
part 28 pins: A28 1
part 29 pins: A29 1
part 30 pins: A30 1
part 31 pins: A31 1
part 32 pins: A32 1
part 33 pins: A33 1
part 34 pins: A34 1
part 35 pins: A35 1
part 36 pins: A36 1
part 37 pins: A37 1
part 38 pins: A38 1
part 39 pins: A39 1
part 40 pins: A40 1
part 41 pins: B1 1
part 42 pins: B2 1
part 43 pins: B3 1
part 44 pins: B4 1
part 45 pins: B5 1
part 46 pins: B6 1
part 47 pins: B7 1
part 48 pins: B8 1
part 49 pins: B9 1
part 50 pins: B10 1
part 51 pins: B11 1
part 52 pins: B12 1
part 53 pins: B13 1
part 54 pins: B14 1
part 55 pins: B15 1
part 56 pins: B16 1
part 57 pins: B17 1
part 58 pins: B18 1
part 59 pins: B19 1
part 60 pins: B20 1
part 61 pins: B21 1
part 62 pins: B22 1
part 63 pins: B23 1
part 64 pins: B24 1
part 65 pins: B25 1
part 66 pins: B26 1
part 67 pins: B27 1
part 68 pins: B28 1
part 69 pins: B29 1
part 70 pins: B30 1
part 71 pins: B31 1
part 72 pins: B32 1
part 73 pins: B33 1
part 74 pins: B34 1
part 75 pins: B35 1
part 76 pins: B36 1
part 77 pins: B37 1
part 78 pins: B38 1
part 79 pins: B39 1
part 80 pins: B40 1
part 81 pins: C1 1
part 82 pins: C2 1
part 83 pins: C3 1
part 84 pins: C4 1
part 85 pins: C5 1
part 86 pins: C6 1
part 87 pins: C7 1
part 88 pins: C8 1
part 89 pins: C9 1
part 90 pins: C10 1
part 91 pins: C11 1
part 92 pins: C12 1
part 93 pins: C13 1
part 94 pins: C14 1
part 95 pins: C15 1
part 96 pins: C16 1
part 97 pins: C17 1
part 98 pins: C18 1
part 99 pins: C19 1
part 100 pins: C20 1
part 101 pins: C21 1
part 102 pins: C22 1
part 103 pins: C23 1
part 104 pins: C24 1
part 105 pins: C25 1
part 106 pins: C26 1
part 107 pins: C27 1
part 108 pins: C28 1
part 109 pins: C29 1
part 110 pins: C30 1
part 111 pins: C31 1
part 112 pins: C32 1
part 113 pins: C33 1
part 114 pins: C34 1
part 115 pins: C35 1
part 116 pins: C36 1
part 117 pins: C37 1
part 118 pins: C38 1
part 119 pins: C39 1
part 120 pins: C40 1
part 121 pins: D1 1
part 122 pins: D2 1
part 123 pins: D3 1
part 124 pins: D4 1
part 125 pins: D5 1
part 126 pins: D6 1
part 127 pins: D7 1
part 128 pins: D8 1
part 129 pins: D9 1
part 130 pins: D10 1
part 131 pins: D11 1
part 132 pins: D12 1
part 133 pins: D13 1
part 134 pins: D14 1
part 135 pins: D15 1
part 136 pins: D16 1
part 137 pins: D17 1
part 138 pins: D18 1
part 139 pins: D19 1
part 140 pins: D20 1
part 141 pins: D21 1
part 142 pins: D22 1
part 143 pins: D23 1
part 144 pins: D24 1
part 145 pins: D25 1
part 146 pins: D26 1
part 147 pins: D27 1
part 148 pins: D28 1
part 149 pins: D29 1
part 150 pins: D30 1
part 151 pins: D31 1
part 152 pins: D32 1
part 153 pins: D33 1
part 154 pins: D34 1
part 155 pins: D35 1
part 156 pins: D36 1
part 157 pins: D37 1
part 158 pins: D38 1
part 159 pins: D39 1
part 160 pins: D40 1

## HDI-160MB
designator X?, comment AMP connector
footprint HDI-160M
part A pins: A1 1, A2 2, A3 3, A4 4, A5 5, A6 6, A7 7, A8 8, A9 9, A10 10, A11 11, A12 12, A13 13, A14 14, A15 15, A16 16, A17 17, A18 18, A19 19, A20 20, A21 21, A22 22, A23 23, A24 24, A25 25, A26 26, A27 27, A28 28, A29 29, A30 30, A31 31, A32 32, A33 33, A34 34, A35 35, A36 36, A37 37, A38 38, A39 39, A40 40
part B pins: B1 1, B2 2, B3 3, B4 4, B5 5, B6 6, B7 7, B8 8, B9 9, B10 10, B11 11, B12 12, B13 13, B14 14, B15 15, B16 16, B17 17, B18 18, B19 19, B20 20, B21 21, B22 22, B23 23, B24 24, B25 25, B26 26, B27 27, B28 28, B29 29, B30 30, B31 31, B32 32, B33 33, B34 34, B35 35, B36 36, B37 37, B38 38, B39 39, B40 40
part C pins: C1 1, C2 2, C3 3, C4 4, C5 5, C6 6, C7 7, C8 8, C9 9, C10 10, C11 11, C12 12, C13 13, C14 14, C15 15, C16 16, C17 17, C18 18, C19 19, C20 20, C21 21, C22 22, C23 23, C24 24, C25 25, C26 26, C27 27, C28 28, C29 29, C30 30, C31 31, C32 32, C33 33, C34 34, C35 35, C36 36, C37 37, C38 38, C39 39, C40 40
part D pins: D1 1, D2 2, D3 3, D4 4, D5 5, D6 6, D7 7, D8 8, D9 9, D10 10, D11 11, D12 12, D13 13, D14 14, D15 15, D16 16, D17 17, D18 18, D19 19, D20 20, D21 21, D22 22, D23 23, D24 24, D25 25, D26 26, D27 27, D28 28, D29 29, D30 30, D31 31, D32 32, D33 33, D34 34, D35 35, D36 36, D37 37, D38 38, D39 39, D40 40

## MTA02-100
designator J?, comment AMP connector
footprint 10X02MTA
pins: 1, 2

## MTA02-156
designator J?, comment AMP connector
footprint 1X2MTA
pins: 1, 2

## MTA03-100
designator J?, comment AMP connector
footprint 10X03MTA
pins: 1, 2, 3

## MTA03-156
designator J?, comment AMP connector
footprint 1X3MTA
pins: 1, 2, 3

## MTA04-100
designator J?, comment AMP connector
footprint 10X04MTA
pins: 1, 2, 3, 4

## MTA04-156
designator J?, comment AMP connector
footprint 1X4MTA
pins: 1, 2, 3, 4

## MTA05-100
designator J?, comment AMP connector
footprint 10X05MTA
pins: 1, 2, 3, 4, 5

## MTA05-156
designator J?, comment AMP connector
footprint 1X5MTA
pins: 1, 2, 3, 4, 5

## MTA06-100
designator J?, comment AMP connector   Connection corrected 2014-09-19
footprint 10X06MTA
pins: 1, 2, 3, 4, 5, 6

## MTA06-156
designator J?, comment AMP connector
footprint 1X6MTA
pins: 1, 2, 3, 4, 5, 6

## MTA07-100
designator J?, comment AMP connector
footprint 10X07MTA
pins: 1, 2, 3, 4, 5, 6, 7

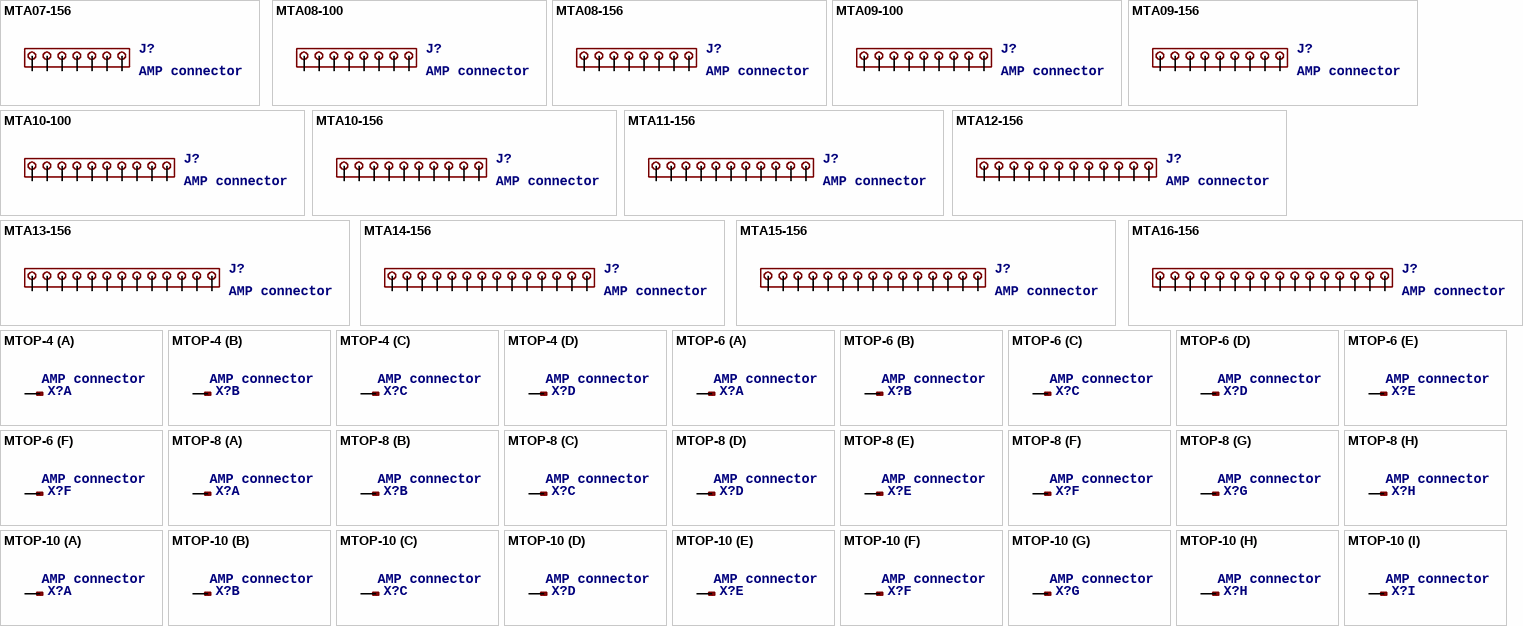
[diagram p20: symbols MTA07-156 to MTOP-10]

## MTA07-156
designator J?, comment AMP connector
footprint 1X7MTA
pins: 1, 2, 3, 4, 5, 6, 7

## MTA08-100
designator J?, comment AMP connector
footprint 10X08MTA
pins: 1, 2, 3, 4, 5, 6, 7, 8

## MTA08-156
designator J?, comment AMP connector
footprint 1X8MTA
pins: 1, 2, 3, 4, 5, 6, 7, 8

## MTA09-100
designator J?, comment AMP connector
footprint 10X09MTA
pins: 1, 2, 3, 4, 5, 6, 7, 8, 9

## MTA09-156
designator J?, comment AMP connector
footprint 1X9MTA
pins: 1, 2, 3, 4, 5, 6, 7, 8, 9

## MTA10-100
designator J?, comment AMP connector
footprint 10X10MTA
pins: 1, 2, 3, 4, 5, 6, 7, 8, 9, 10

## MTA10-156
designator J?, comment AMP connector
footprint 1X10MTA
pins: 1, 2, 3, 4, 5, 6, 7, 8, 9, 10

## MTA11-156
designator J?, comment AMP connector
footprint 1X11MTA
pins: 1, 2, 3, 4, 5, 6, 7, 8, 9, 10, 11

## MTA12-156
designator J?, comment AMP connector
footprint 1X12MTA
pins: 1, 2, 3, 4, 5, 6, 7, 8, 9, 10, 11, 12

## MTA13-156
designator J?, comment AMP connector
footprint 1X13MTA
pins: 1, 2, 3, 4, 5, 6, 7, 8, 9, 10, 11, 12, 13

## MTA14-156
designator J?, comment AMP connector
footprint 1X14MTA
pins: 1, 2, 3, 4, 5, 6, 7, 8, 9, 10, 11, 12, 13, 14

## MTA15-156
designator J?, comment AMP connector
footprint 1X15MTA
pins: 1, 2, 3, 4, 5, 6, 7, 8, 9, 10, 11, 12, 13, 14, 15

## MTA16-156
designator J?, comment AMP connector
footprint 1X16MTA
pins: 1, 2, 3, 4, 5, 6, 7, 8, 9, 10, 11, 12, 13, 14, 15, 16

## MTOP-4
designator X?, comment AMP connector
footprint MTOP-4
part A pins: 1
part B pins: 2 1
part C pins: 3 1
part D pins: 4 1

## MTOP-6
designator X?, comment AMP connector
footprint MTOP-6
part A pins: 1
part B pins: 2 1
part C pins: 3 1
part D pins: 4 1
part E pins: 5 1
part F pins: 6 1

## MTOP-8
designator X?, comment AMP connector
footprint MTOP-8
part A pins: 1
part B pins: 2 1
part C pins: 3 1
part D pins: 4 1
part E pins: 5 1
part F pins: 6 1
part G pins: 7 1
part H pins: 8 1

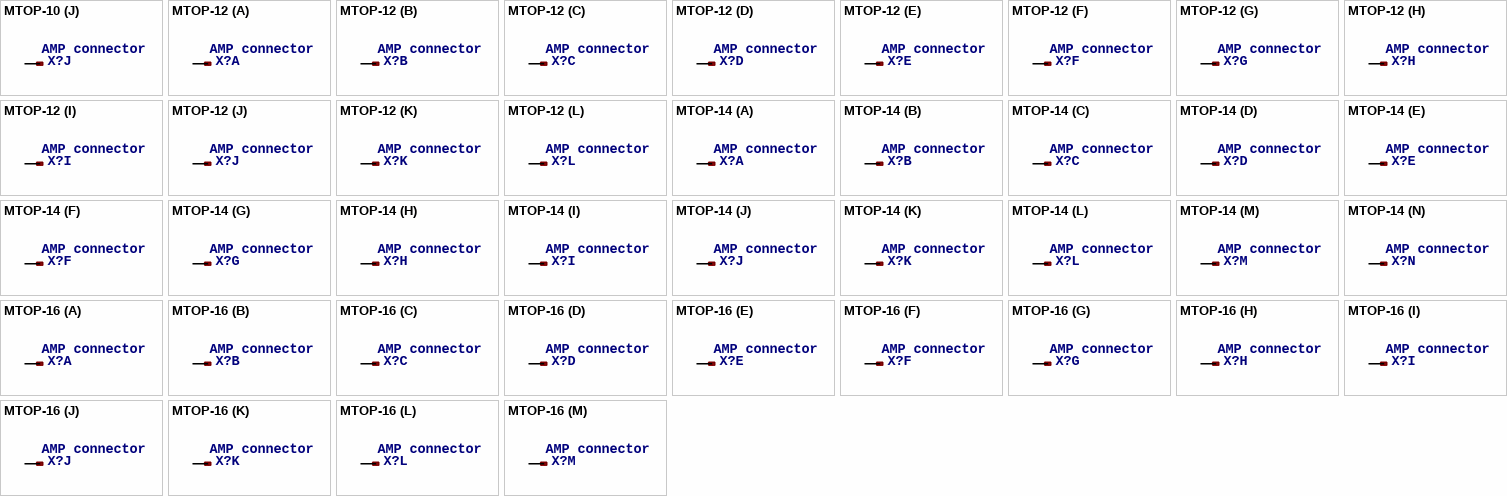
[diagram p21: symbols MTOP-10 to MTOP-16]

## MTOP-10
designator X?, comment AMP connector
footprint MTOP-10
part A pins: 1
part B pins: 2 1
part C pins: 3 1
part D pins: 4 1
part E pins: 5 1
part F pins: 6 1
part G pins: 7 1
part H pins: 8 1
part I pins: 9 1
part J pins: 10 1

## MTOP-12
designator X?, comment AMP connector
footprint MTOP-12
part A pins: 1
part B pins: 2 1
part C pins: 3 1
part D pins: 4 1
part E pins: 5 1
part F pins: 6 1
part G pins: 7 1
part H pins: 8 1
part I pins: 9 1
part J pins: 10 1
part K pins: 11 1
part L pins: 12 1

## MTOP-14
designator X?, comment AMP connector
footprint MTOP-14
part A pins: 1
part B pins: 2 1
part C pins: 3 1
part D pins: 4 1
part E pins: 5 1
part F pins: 6 1
part G pins: 7 1
part H pins: 8 1
part I pins: 9 1
part J pins: 10 1
part K pins: 11 1
part L pins: 12 1
part M pins: 13 1
part N pins: 14 1

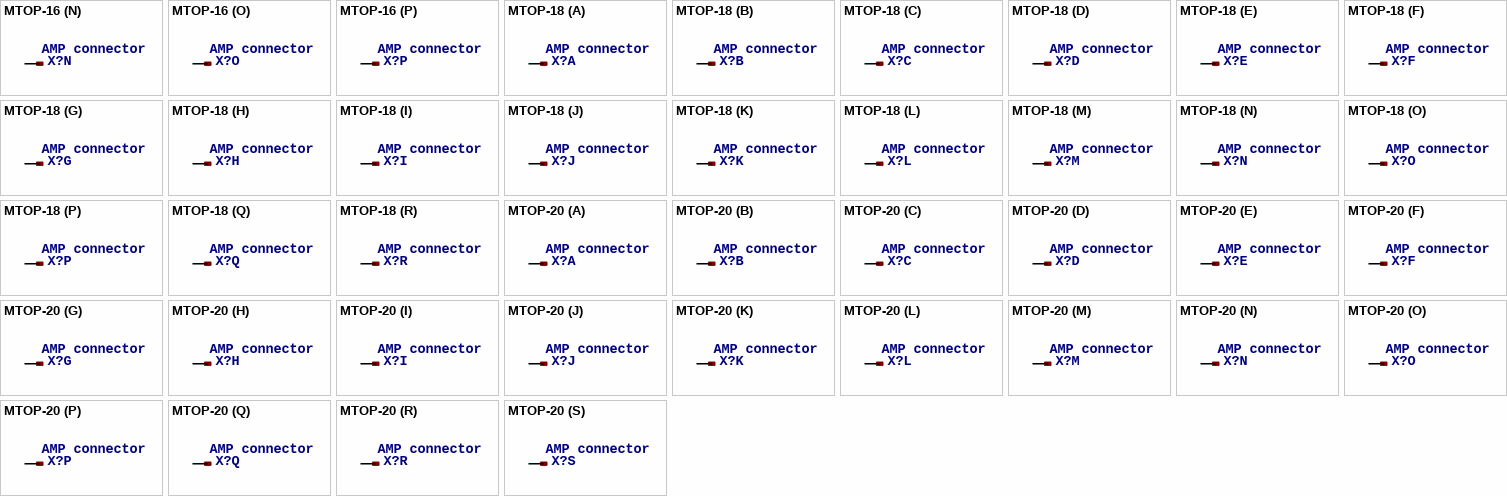
[diagram p22: symbols MTOP-16 to MTOP-20]

## MTOP-16
designator X?, comment AMP connector
footprint MTOP-16
part A pins: 1
part B pins: 2 1
part C pins: 3 1
part D pins: 4 1
part E pins: 5 1
part F pins: 6 1
part G pins: 7 1
part H pins: 8 1
part I pins: 9 1
part J pins: 10 1
part K pins: 11 1
part L pins: 12 1
part M pins: 13 1
part N pins: 14 1
part O pins: 15 1
part P pins: 16 1

## MTOP-18
designator X?, comment AMP connector
footprint MTOP-18
part A pins: 1
part B pins: 2 1
part C pins: 3 1
part D pins: 4 1
part E pins: 5 1
part F pins: 6 1
part G pins: 7 1
part H pins: 8 1
part I pins: 9 1
part J pins: 10 1
part K pins: 11 1
part L pins: 12 1
part M pins: 13 1
part N pins: 14 1
part O pins: 15 1
part P pins: 16 1
part Q pins: 17 1
part R pins: 18 1

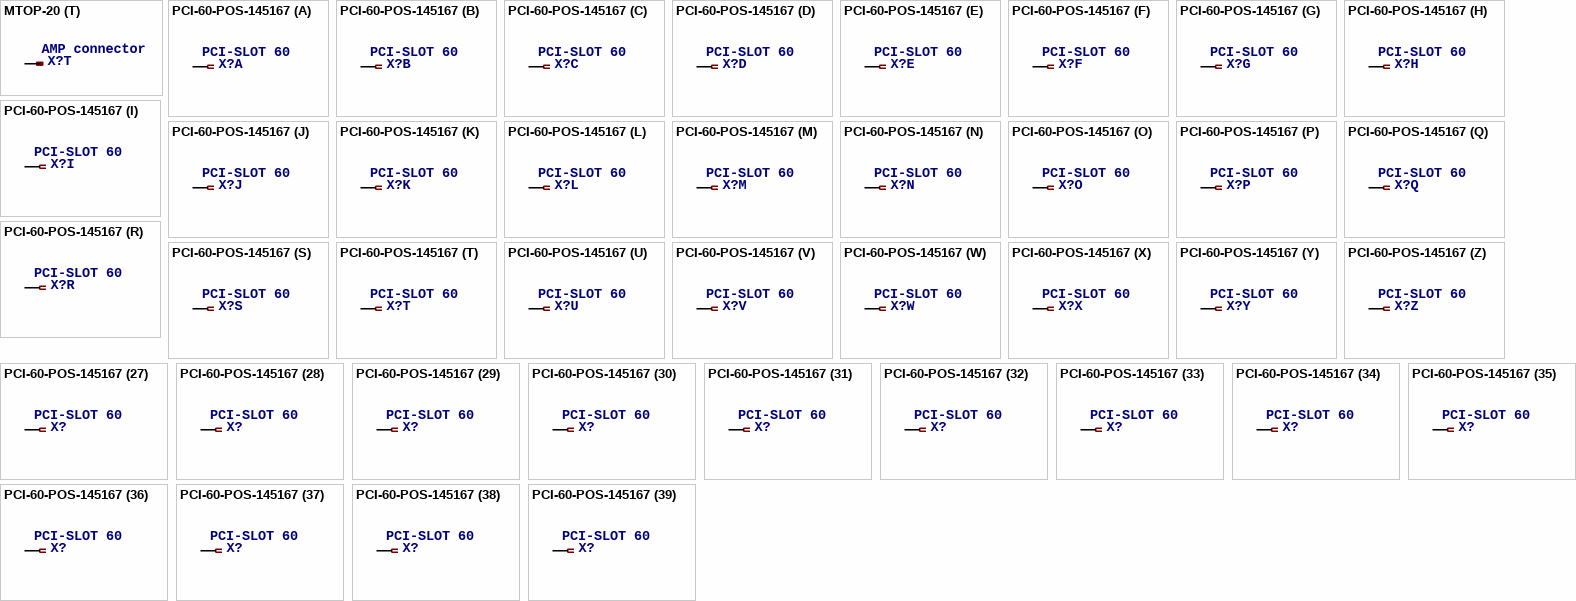
[diagram p23: symbols MTOP-20 to PCI-60-POS-145167]

## MTOP-20
designator X?, comment AMP connector
footprint MTOP-20
part A pins: 1
part B pins: 2 1
part C pins: 3 1
part D pins: 4 1
part E pins: 5 1
part F pins: 6 1
part G pins: 7 1
part H pins: 8 1
part I pins: 9 1
part J pins: 10 1
part K pins: 11 1
part L pins: 12 1
part M pins: 13 1
part N pins: 14 1
part O pins: 15 1
part P pins: 16 1
part Q pins: 17 1
part R pins: 18 1
part S pins: 19 1
part T pins: 20 1

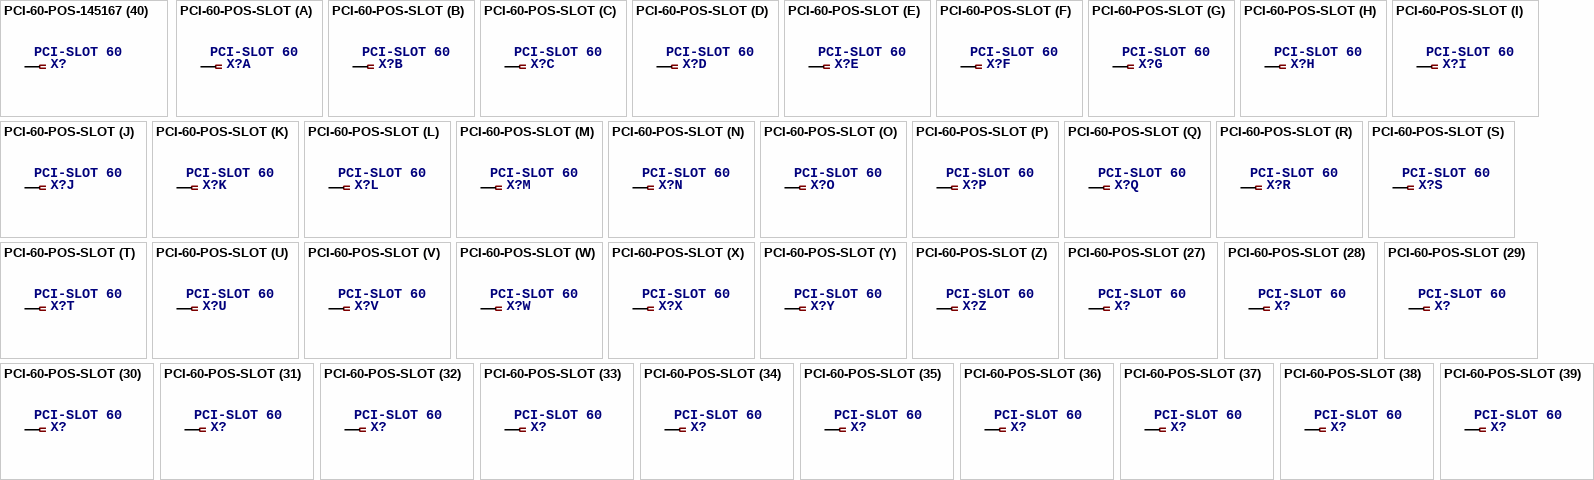
[diagram p24: symbols PCI-60-POS-145167 to PCI-60-POS-SLOT]

## PCI-60-POS-145167
designator X?, comment PCI-SLOT 60 Dual Position 0.05 Series Standard Edge   Source: http://catalog.tycoelectronics.com .. ENG_CD_145167_F.pdf
footprint 145167-2
part A pins: 1
part B pins: 2 1
part C pins: 3 1
part D pins: 4 1
part E pins: 5 1
part F pins: 6 1
part G pins: 7 1
part H pins: 8 1
part I pins: 9 1
part J pins: 10 1
part K pins: 11 1
part L pins: 12 1
part M pins: 13 1
part N pins: 14 1
part O pins: 15 1
part P pins: 16 1
part Q pins: 17 1
part R pins: 18 1
part S pins: 19 1
part T pins: 20 1
part U pins: 21 1
part V pins: 22 1
part W pins: 23 1
part X pins: 24 1
part Y pins: 25 1
part Z pins: 26 1
part 27 pins: 27 1
part 28 pins: 28 1
part 29 pins: 29 1
part 30 pins: 30 1
part 31 pins: 31 1
part 32 pins: 32 1
part 33 pins: 33 1
part 34 pins: 34 1
part 35 pins: 35 1
part 36 pins: 36 1
part 37 pins: 37 1
part 38 pins: 38 1
part 39 pins: 39 1
part 40 pins: 40 1
part 41 pins: 41 1
part 42 pins: 42 1
part 43 pins: 43 1
part 44 pins: 44 1
part 45 pins: 45 1
part 46 pins: 46 1
part 47 pins: 47 1
part 48 pins: 48 1
part 49 pins: 49 1
part 50 pins: 50 1
part 51 pins: 51 1
part 52 pins: 52 1
part 53 pins: 53 1
part 54 pins: 54 1
part 55 pins: 55 1
part 56 pins: 56 1
part 57 pins: 57 1
part 58 pins: 58 1
part 59 pins: 59 1
part 60 pins: 60 1
part 61 pins: 61 1
part 62 pins: 62 1
part 63 pins: 63 1
part 64 pins: 64 1
part 65 pins: 65 1
part 66 pins: 66 1
part 67 pins: 67 1
part 68 pins: 68 1
part 69 pins: 69 1
part 70 pins: 70 1
part 71 pins: 71 1
part 72 pins: 72 1
part 73 pins: 73 1
part 74 pins: 74 1
part 75 pins: 75 1
part 76 pins: 76 1
part 77 pins: 77 1
part 78 pins: 78 1
part 79 pins: 79 1
part 80 pins: 80 1
part 81 pins: 81 1
part 82 pins: 82 1
part 83 pins: 83 1
part 84 pins: 84 1
part 85 pins: 85 1
part 86 pins: 86 1
part 87 pins: 87 1
part 88 pins: 88 1
part 89 pins: 89 1
part 90 pins: 90 1
part 91 pins: 91 1
part 92 pins: 92 1
part 93 pins: 93 1
part 94 pins: 94 1
part 95 pins: 95 1
part 96 pins: 96 1
part 97 pins: 97 1
part 98 pins: 98 1
part 99 pins: 99 1
part 100 pins: 100 1
part 101 pins: 101 1
part 102 pins: 102 1
part 103 pins: 103 1
part 104 pins: 104 1
part 105 pins: 105 1
part 106 pins: 106 1
part 107 pins: 107 1
part 108 pins: 108 1
part 109 pins: 109 1
part 110 pins: 110 1
part 111 pins: 111 1
part 112 pins: 112 1
part 113 pins: 113 1
part 114 pins: 114 1
part 115 pins: 115 1
part 116 pins: 116 1
part 117 pins: 117 1
part 118 pins: 118 1
part 119 pins: 119 1
part 120 pins: 120 1

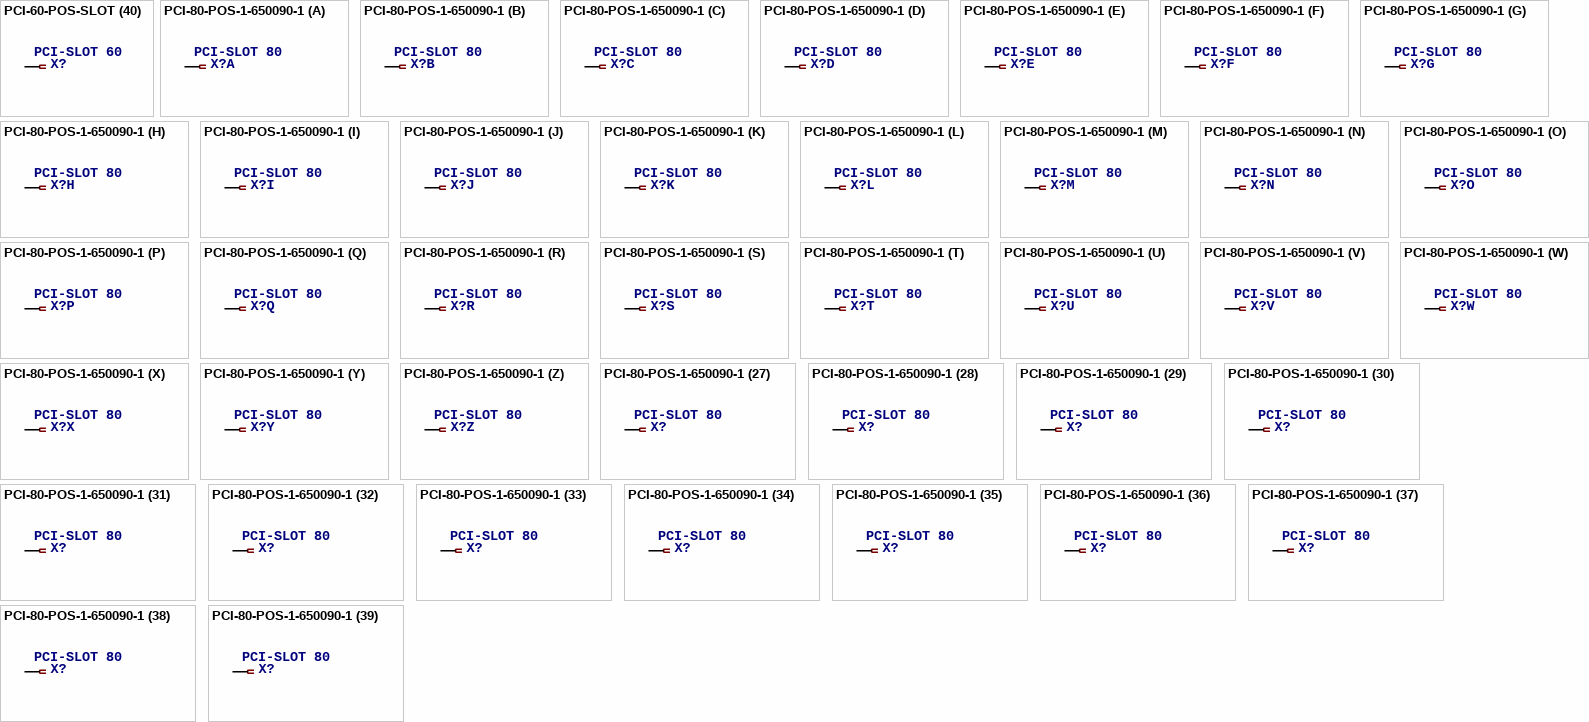
[diagram p25: symbols PCI-60-POS-SLOT to PCI-80-POS-1-650090-1]

## PCI-60-POS-SLOT
designator X?, comment PCI-SLOT 60 Dual Position 0.05 Series Standard Edge   Source: http://catalog.tycoelectronics.com .. ENG_CD_145167_F.pdf
footprint PCI-SLOT-60
part A pins: 1
part B pins: 2 1
part C pins: 3 1
part D pins: 4 1
part E pins: 5 1
part F pins: 6 1
part G pins: 7 1
part H pins: 8 1
part I pins: 9 1
part J pins: 10 1
part K pins: 11 1
part L pins: 12 1
part M pins: 13 1
part N pins: 14 1
part O pins: 15 1
part P pins: 16 1
part Q pins: 17 1
part R pins: 18 1
part S pins: 19 1
part T pins: 20 1
part U pins: 21 1
part V pins: 22 1
part W pins: 23 1
part X pins: 24 1
part Y pins: 25 1
part Z pins: 26 1
part 27 pins: 27 1
part 28 pins: 28 1
part 29 pins: 29 1
part 30 pins: 30 1
part 31 pins: 31 1
part 32 pins: 32 1
part 33 pins: 33 1
part 34 pins: 34 1
part 35 pins: 35 1
part 36 pins: 36 1
part 37 pins: 37 1
part 38 pins: 38 1
part 39 pins: 39 1
part 40 pins: 40 1
part 41 pins: 41 1
part 42 pins: 42 1
part 43 pins: 43 1
part 44 pins: 44 1
part 45 pins: 45 1
part 46 pins: 46 1
part 47 pins: 47 1
part 48 pins: 48 1
part 49 pins: 49 1
part 50 pins: 50 1
part 51 pins: 51 1
part 52 pins: 52 1
part 53 pins: 53 1
part 54 pins: 54 1
part 55 pins: 55 1
part 56 pins: 56 1
part 57 pins: 57 1
part 58 pins: 58 1
part 59 pins: 59 1
part 60 pins: 60 1
part 61 pins: 61 1
part 62 pins: 62 1
part 63 pins: 63 1
part 64 pins: 64 1
part 65 pins: 65 1
part 66 pins: 66 1
part 67 pins: 67 1
part 68 pins: 68 1
part 69 pins: 69 1
part 70 pins: 70 1
part 71 pins: 71 1
part 72 pins: 72 1
part 73 pins: 73 1
part 74 pins: 74 1
part 75 pins: 75 1
part 76 pins: 76 1
part 77 pins: 77 1
part 78 pins: 78 1
part 79 pins: 79 1
part 80 pins: 80 1
part 81 pins: 81 1
part 82 pins: 82 1
part 83 pins: 83 1
part 84 pins: 84 1
part 85 pins: 85 1
part 86 pins: 86 1
part 87 pins: 87 1
part 88 pins: 88 1
part 89 pins: 89 1
part 90 pins: 90 1
part 91 pins: 91 1
part 92 pins: 92 1
part 93 pins: 93 1
part 94 pins: 94 1
part 95 pins: 95 1
part 96 pins: 96 1
part 97 pins: 97 1
part 98 pins: 98 1
part 99 pins: 99 1
part 100 pins: 100 1
part 101 pins: 101 1
part 102 pins: 102 1
part 103 pins: 103 1
part 104 pins: 104 1
part 105 pins: 105 1
part 106 pins: 106 1
part 107 pins: 107 1
part 108 pins: 108 1
part 109 pins: 109 1
part 110 pins: 110 1
part 111 pins: 111 1
part 112 pins: 112 1
part 113 pins: 113 1
part 114 pins: 114 1
part 115 pins: 115 1
part 116 pins: 116 1
part 117 pins: 117 1
part 118 pins: 118 1
part 119 pins: 119 1
part 120 pins: 120 1

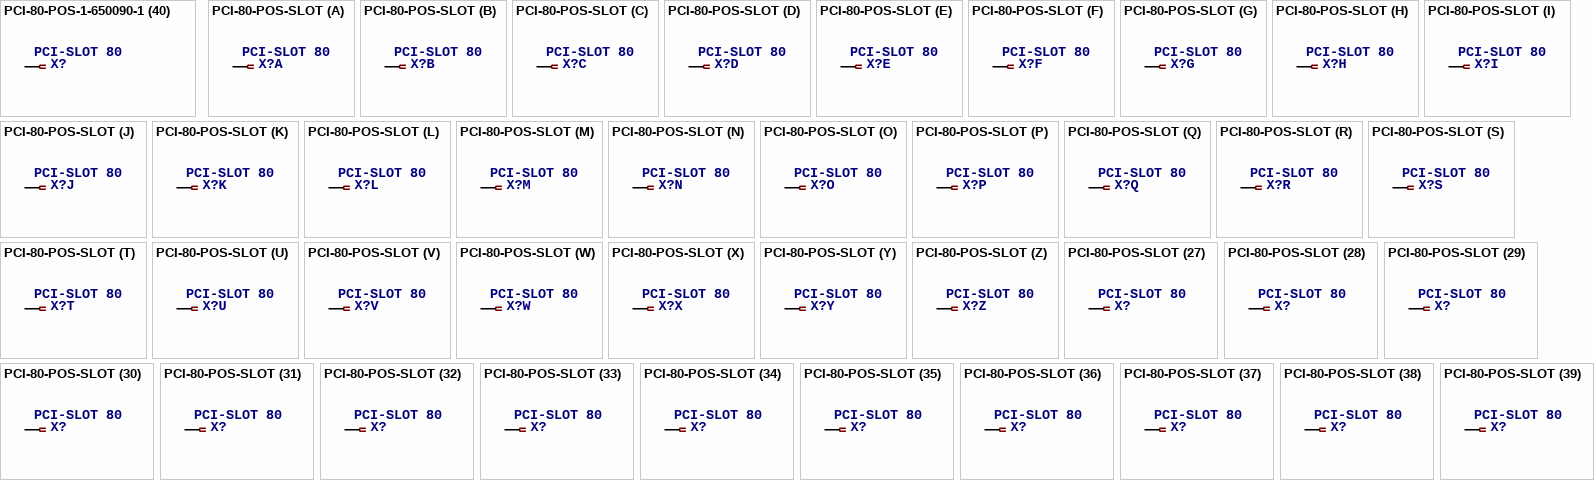
[diagram p26: symbols PCI-80-POS-1-650090-1 to PCI-80-POS-SLOT]

## PCI-80-POS-1-650090-1
designator X?, comment PCI-SLOT 80 Dual Position 0.05 Series Standard Edge   Source: http://catalog.tycoelectronics.com .. ENG_CD_650090_AA.tif.tiff
footprint 1-650090-1
part A pins: 1
part B pins: 2 1
part C pins: 3 1
part D pins: 4 1
part E pins: 5 1
part F pins: 6 1
part G pins: 7 1
part H pins: 8 1
part I pins: 9 1
part J pins: 10 1
part K pins: 11 1
part L pins: 12 1
part M pins: 13 1
part N pins: 14 1
part O pins: 15 1
part P pins: 16 1
part Q pins: 17 1
part R pins: 18 1
part S pins: 19 1
part T pins: 20 1
part U pins: 21 1
part V pins: 22 1
part W pins: 23 1
part X pins: 24 1
part Y pins: 25 1
part Z pins: 26 1
part 27 pins: 27 1
part 28 pins: 28 1
part 29 pins: 29 1
part 30 pins: 30 1
part 31 pins: 31 1
part 32 pins: 32 1
part 33 pins: 33 1
part 34 pins: 34 1
part 35 pins: 35 1
part 36 pins: 36 1
part 37 pins: 37 1
part 38 pins: 38 1
part 39 pins: 39 1
part 40 pins: 40 1
part 41 pins: 41 1
part 42 pins: 42 1
part 43 pins: 43 1
part 44 pins: 44 1
part 45 pins: 45 1
part 46 pins: 46 1
part 47 pins: 47 1
part 48 pins: 48 1
part 49 pins: 49 1
part 50 pins: 50 1
part 51 pins: 51 1
part 52 pins: 52 1
part 53 pins: 53 1
part 54 pins: 54 1
part 55 pins: 55 1
part 56 pins: 56 1
part 57 pins: 57 1
part 58 pins: 58 1
part 59 pins: 59 1
part 60 pins: 60 1
part 61 pins: 61 1
part 62 pins: 62 1
part 63 pins: 63 1
part 64 pins: 64 1
part 65 pins: 65 1
part 66 pins: 66 1
part 67 pins: 67 1
part 68 pins: 68 1
part 69 pins: 69 1
part 70 pins: 70 1
part 71 pins: 71 1
part 72 pins: 72 1
part 73 pins: 73 1
part 74 pins: 74 1
part 75 pins: 75 1
part 76 pins: 76 1
part 77 pins: 77 1
part 78 pins: 78 1
part 79 pins: 79 1
part 80 pins: 80 1
part 81 pins: 81 1
part 82 pins: 82 1
part 83 pins: 83 1
part 84 pins: 84 1
part 85 pins: 85 1
part 86 pins: 86 1
part 87 pins: 87 1
part 88 pins: 88 1
part 89 pins: 89 1
part 90 pins: 90 1
part 91 pins: 91 1
part 92 pins: 92 1
part 93 pins: 93 1
part 94 pins: 94 1
part 95 pins: 95 1
part 96 pins: 96 1
part 97 pins: 97 1
part 98 pins: 98 1
part 99 pins: 99 1
part 100 pins: 100 1
part 101 pins: 101 1
part 102 pins: 102 1
part 103 pins: 103 1
part 104 pins: 104 1
part 105 pins: 105 1
part 106 pins: 106 1
part 107 pins: 107 1
part 108 pins: 108 1
part 109 pins: 109 1
part 110 pins: 110 1
part 111 pins: 111 1
part 112 pins: 112 1
part 113 pins: 113 1
part 114 pins: 114 1
part 115 pins: 115 1
part 116 pins: 116 1
part 117 pins: 117 1
part 118 pins: 118 1
part 119 pins: 119 1
part 120 pins: 120 1
part 121 pins: 121 1
part 122 pins: 122 1
part 123 pins: 123 1
part 124 pins: 124 1
part 125 pins: 125 1
part 126 pins: 126 1
part 127 pins: 127 1
part 128 pins: 128 1
part 129 pins: 129 1
part 130 pins: 130 1
part 131 pins: 131 1
part 132 pins: 132 1
part 133 pins: 133 1
part 134 pins: 134 1
part 135 pins: 135 1
part 136 pins: 136 1
part 137 pins: 137 1
part 138 pins: 138 1
part 139 pins: 139 1
part 140 pins: 140 1
part 141 pins: 141 1
part 142 pins: 142 1
part 143 pins: 143 1
part 144 pins: 144 1
part 145 pins: 145 1
part 146 pins: 146 1
part 147 pins: 147 1
part 148 pins: 148 1
part 149 pins: 149 1
part 150 pins: 150 1
part 151 pins: 151 1
part 152 pins: 152 1
part 153 pins: 153 1
part 154 pins: 154 1
part 155 pins: 155 1
part 156 pins: 156 1
part 157 pins: 157 1
part 158 pins: 158 1
part 159 pins: 159 1
part 160 pins: 160 1

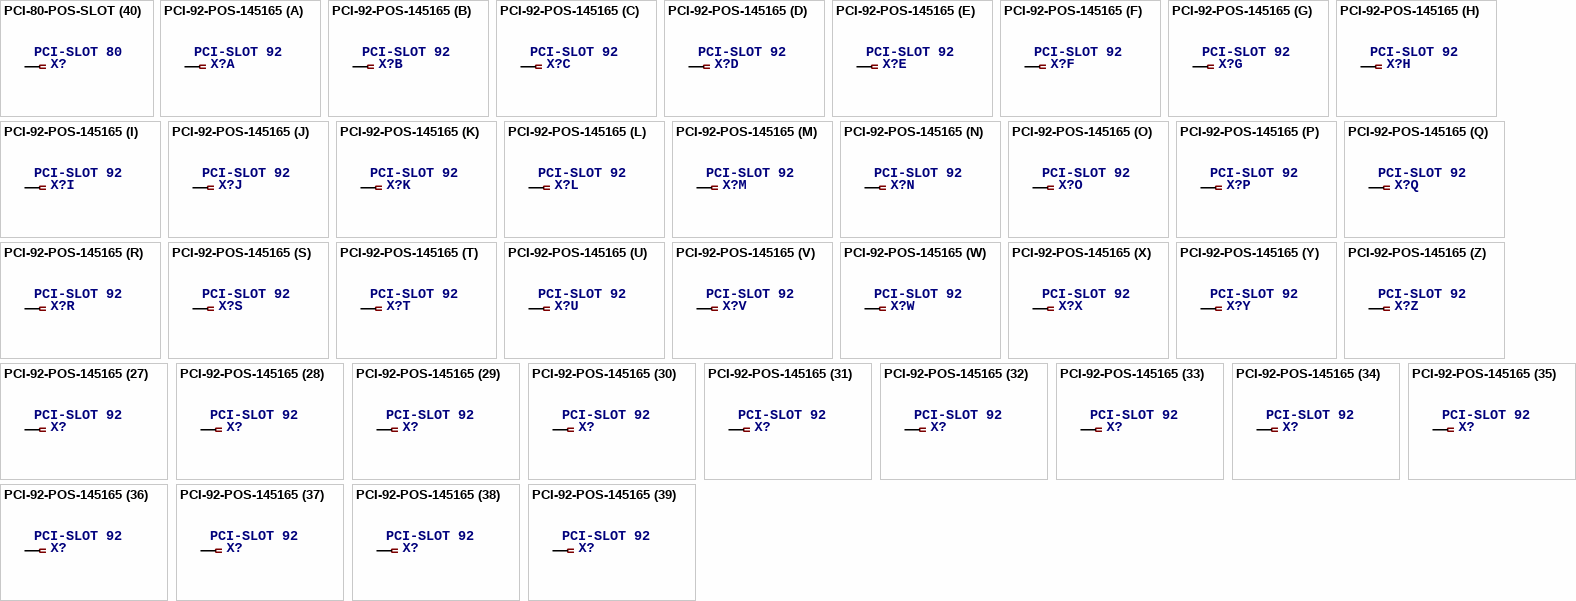
[diagram p27: symbols PCI-80-POS-SLOT to PCI-92-POS-145165]

## PCI-80-POS-SLOT
designator X?, comment PCI-SLOT 80 Dual Position 0.05 Series Standard Edge   Source: http://catalog.tycoelectronics.com .. ENG_CD_650090_AA.tif.tiff
footprint PCI-SLOT-80
part A pins: 1
part B pins: 2 1
part C pins: 3 1
part D pins: 4 1
part E pins: 5 1
part F pins: 6 1
part G pins: 7 1
part H pins: 8 1
part I pins: 9 1
part J pins: 10 1
part K pins: 11 1
part L pins: 12 1
part M pins: 13 1
part N pins: 14 1
part O pins: 15 1
part P pins: 16 1
part Q pins: 17 1
part R pins: 18 1
part S pins: 19 1
part T pins: 20 1
part U pins: 21 1
part V pins: 22 1
part W pins: 23 1
part X pins: 24 1
part Y pins: 25 1
part Z pins: 26 1
part 27 pins: 27 1
part 28 pins: 28 1
part 29 pins: 29 1
part 30 pins: 30 1
part 31 pins: 31 1
part 32 pins: 32 1
part 33 pins: 33 1
part 34 pins: 34 1
part 35 pins: 35 1
part 36 pins: 36 1
part 37 pins: 37 1
part 38 pins: 38 1
part 39 pins: 39 1
part 40 pins: 40 1
part 41 pins: 41 1
part 42 pins: 42 1
part 43 pins: 43 1
part 44 pins: 44 1
part 45 pins: 45 1
part 46 pins: 46 1
part 47 pins: 47 1
part 48 pins: 48 1
part 49 pins: 49 1
part 50 pins: 50 1
part 51 pins: 51 1
part 52 pins: 52 1
part 53 pins: 53 1
part 54 pins: 54 1
part 55 pins: 55 1
part 56 pins: 56 1
part 57 pins: 57 1
part 58 pins: 58 1
part 59 pins: 59 1
part 60 pins: 60 1
part 61 pins: 61 1
part 62 pins: 62 1
part 63 pins: 63 1
part 64 pins: 64 1
part 65 pins: 65 1
part 66 pins: 66 1
part 67 pins: 67 1
part 68 pins: 68 1
part 69 pins: 69 1
part 70 pins: 70 1
part 71 pins: 71 1
part 72 pins: 72 1
part 73 pins: 73 1
part 74 pins: 74 1
part 75 pins: 75 1
part 76 pins: 76 1
part 77 pins: 77 1
part 78 pins: 78 1
part 79 pins: 79 1
part 80 pins: 80 1
part 81 pins: 81 1
part 82 pins: 82 1
part 83 pins: 83 1
part 84 pins: 84 1
part 85 pins: 85 1
part 86 pins: 86 1
part 87 pins: 87 1
part 88 pins: 88 1
part 89 pins: 89 1
part 90 pins: 90 1
part 91 pins: 91 1
part 92 pins: 92 1
part 93 pins: 93 1
part 94 pins: 94 1
part 95 pins: 95 1
part 96 pins: 96 1
part 97 pins: 97 1
part 98 pins: 98 1
part 99 pins: 99 1
part 100 pins: 100 1
part 101 pins: 101 1
part 102 pins: 102 1
part 103 pins: 103 1
part 104 pins: 104 1
part 105 pins: 105 1
part 106 pins: 106 1
part 107 pins: 107 1
part 108 pins: 108 1
part 109 pins: 109 1
part 110 pins: 110 1
part 111 pins: 111 1
part 112 pins: 112 1
part 113 pins: 113 1
part 114 pins: 114 1
part 115 pins: 115 1
part 116 pins: 116 1
part 117 pins: 117 1
part 118 pins: 118 1
part 119 pins: 119 1
part 120 pins: 120 1
part 121 pins: 121 1
part 122 pins: 122 1
part 123 pins: 123 1
part 124 pins: 124 1
part 125 pins: 125 1
part 126 pins: 126 1
part 127 pins: 127 1
part 128 pins: 128 1
part 129 pins: 129 1
part 130 pins: 130 1
part 131 pins: 131 1
part 132 pins: 132 1
part 133 pins: 133 1
part 134 pins: 134 1
part 135 pins: 135 1
part 136 pins: 136 1
part 137 pins: 137 1
part 138 pins: 138 1
part 139 pins: 139 1
part 140 pins: 140 1
part 141 pins: 141 1
part 142 pins: 142 1
part 143 pins: 143 1
part 144 pins: 144 1
part 145 pins: 145 1
part 146 pins: 146 1
part 147 pins: 147 1
part 148 pins: 148 1
part 149 pins: 149 1
part 150 pins: 150 1
part 151 pins: 151 1
part 152 pins: 152 1
part 153 pins: 153 1
part 154 pins: 154 1
part 155 pins: 155 1
part 156 pins: 156 1
part 157 pins: 157 1
part 158 pins: 158 1
part 159 pins: 159 1
part 160 pins: 160 1

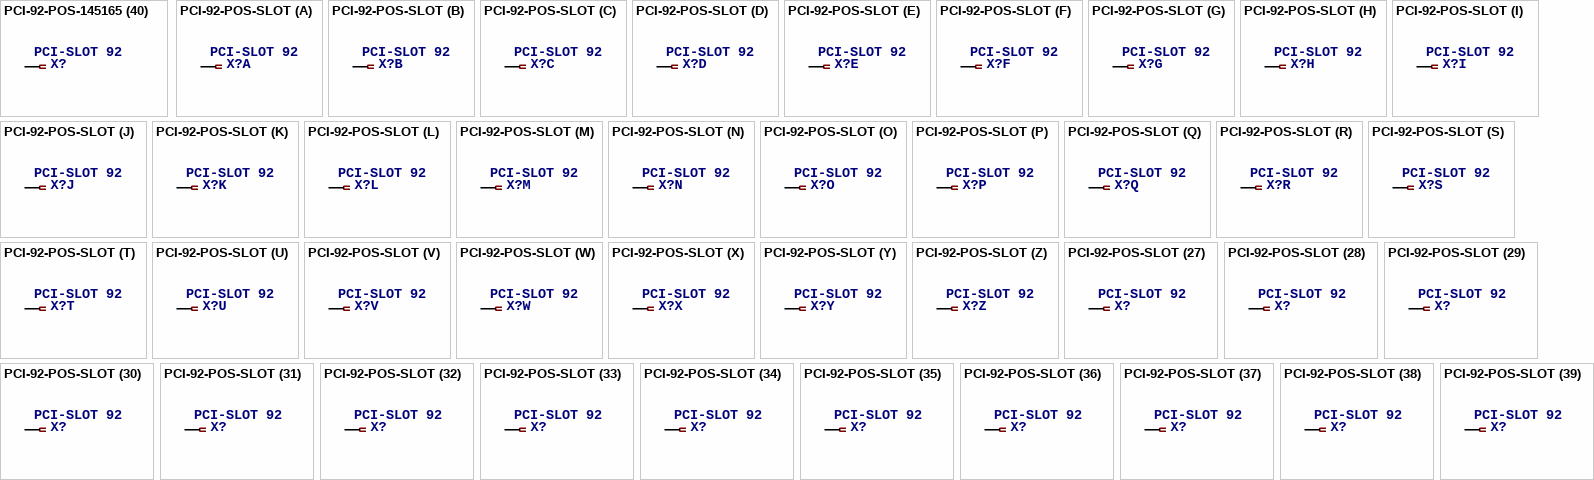
[diagram p28: symbols PCI-92-POS-145165 to PCI-92-POS-SLOT]

## PCI-92-POS-145165
designator X?, comment PCI-SLOT 92 Dual Position 0.05 Series Standard Edge   Source: http://catalog.tycoelectronics.com .. ENG_CD_145165_G.pdf
footprint 145165-2
part A pins: 1
part B pins: 2 1
part C pins: 3 1
part D pins: 4 1
part E pins: 5 1
part F pins: 6 1
part G pins: 7 1
part H pins: 8 1
part I pins: 9 1
part J pins: 10 1
part K pins: 11 1
part L pins: 12 1
part M pins: 13 1
part N pins: 14 1
part O pins: 15 1
part P pins: 16 1
part Q pins: 17 1
part R pins: 18 1
part S pins: 19 1
part T pins: 20 1
part U pins: 21 1
part V pins: 22 1
part W pins: 23 1
part X pins: 24 1
part Y pins: 25 1
part Z pins: 26 1
part 27 pins: 27 1
part 28 pins: 28 1
part 29 pins: 29 1
part 30 pins: 30 1
part 31 pins: 31 1
part 32 pins: 32 1
part 33 pins: 33 1
part 34 pins: 34 1
part 35 pins: 35 1
part 36 pins: 36 1
part 37 pins: 37 1
part 38 pins: 38 1
part 39 pins: 39 1
part 40 pins: 40 1
part 41 pins: 41 1
part 42 pins: 42 1
part 43 pins: 43 1
part 44 pins: 44 1
part 45 pins: 45 1
part 46 pins: 46 1
part 47 pins: 47 1
part 48 pins: 48 1
part 49 pins: 49 1
part 50 pins: 50 1
part 51 pins: 51 1
part 52 pins: 52 1
part 53 pins: 53 1
part 54 pins: 54 1
part 55 pins: 55 1
part 56 pins: 56 1
part 57 pins: 57 1
part 58 pins: 58 1
part 59 pins: 59 1
part 60 pins: 60 1
part 61 pins: 61 1
part 62 pins: 62 1
part 63 pins: 63 1
part 64 pins: 64 1
part 65 pins: 65 1
part 66 pins: 66 1
part 67 pins: 67 1
part 68 pins: 68 1
part 69 pins: 69 1
part 70 pins: 70 1
part 71 pins: 71 1
part 72 pins: 72 1
part 73 pins: 73 1
part 74 pins: 74 1
part 75 pins: 75 1
part 76 pins: 76 1
part 77 pins: 77 1
part 78 pins: 78 1
part 79 pins: 79 1
part 80 pins: 80 1
part 81 pins: 81 1
part 82 pins: 82 1
part 83 pins: 83 1
part 84 pins: 84 1
part 85 pins: 85 1
part 86 pins: 86 1
part 87 pins: 87 1
part 88 pins: 88 1
part 89 pins: 89 1
part 90 pins: 90 1
part 91 pins: 91 1
part 92 pins: 92 1
part 93 pins: 93 1
part 94 pins: 94 1
part 95 pins: 95 1
part 96 pins: 96 1
part 97 pins: 97 1
part 98 pins: 98 1
part 99 pins: 99 1
part 100 pins: 100 1
part 101 pins: 101 1
part 102 pins: 102 1
part 103 pins: 103 1
part 104 pins: 104 1
part 105 pins: 105 1
part 106 pins: 106 1
part 107 pins: 107 1
part 108 pins: 108 1
part 109 pins: 109 1
part 110 pins: 110 1
part 111 pins: 111 1
part 112 pins: 112 1
part 113 pins: 113 1
part 114 pins: 114 1
part 115 pins: 115 1
part 116 pins: 116 1
part 117 pins: 117 1
part 118 pins: 118 1
part 119 pins: 119 1
part 120 pins: 120 1
part 121 pins: 121 1
part 122 pins: 122 1
part 123 pins: 123 1
part 124 pins: 124 1
part 125 pins: 125 1
part 126 pins: 126 1
part 127 pins: 127 1
part 128 pins: 128 1
part 129 pins: 129 1
part 130 pins: 130 1
part 131 pins: 131 1
part 132 pins: 132 1
part 133 pins: 133 1
part 134 pins: 134 1
part 135 pins: 135 1
part 136 pins: 136 1
part 137 pins: 137 1
part 138 pins: 138 1
part 139 pins: 139 1
part 140 pins: 140 1
part 141 pins: 141 1
part 142 pins: 142 1
part 143 pins: 143 1
part 144 pins: 144 1
part 145 pins: 145 1
part 146 pins: 146 1
part 147 pins: 147 1
part 148 pins: 148 1
part 149 pins: 149 1
part 150 pins: 150 1
part 151 pins: 151 1
part 152 pins: 152 1
part 153 pins: 153 1
part 154 pins: 154 1
part 155 pins: 155 1
part 156 pins: 156 1
part 157 pins: 157 1
part 158 pins: 158 1
part 159 pins: 159 1
part 160 pins: 160 1
part 161 pins: 161 1
part 162 pins: 162 1
part 163 pins: 163 1
part 164 pins: 164 1
part 165 pins: 165 1
part 166 pins: 166 1
part 167 pins: 167 1
part 168 pins: 168 1
part 169 pins: 169 1
part 170 pins: 170 1
part 171 pins: 171 1
part 172 pins: 172 1
part 173 pins: 173 1
part 174 pins: 174 1
part 175 pins: 175 1
part 176 pins: 176 1
part 177 pins: 177 1
part 178 pins: 178 1
part 179 pins: 179 1
part 180 pins: 180 1
part 181 pins: 181 1
part 182 pins: 182 1
part 183 pins: 183 1
part 184 pins: 184 1

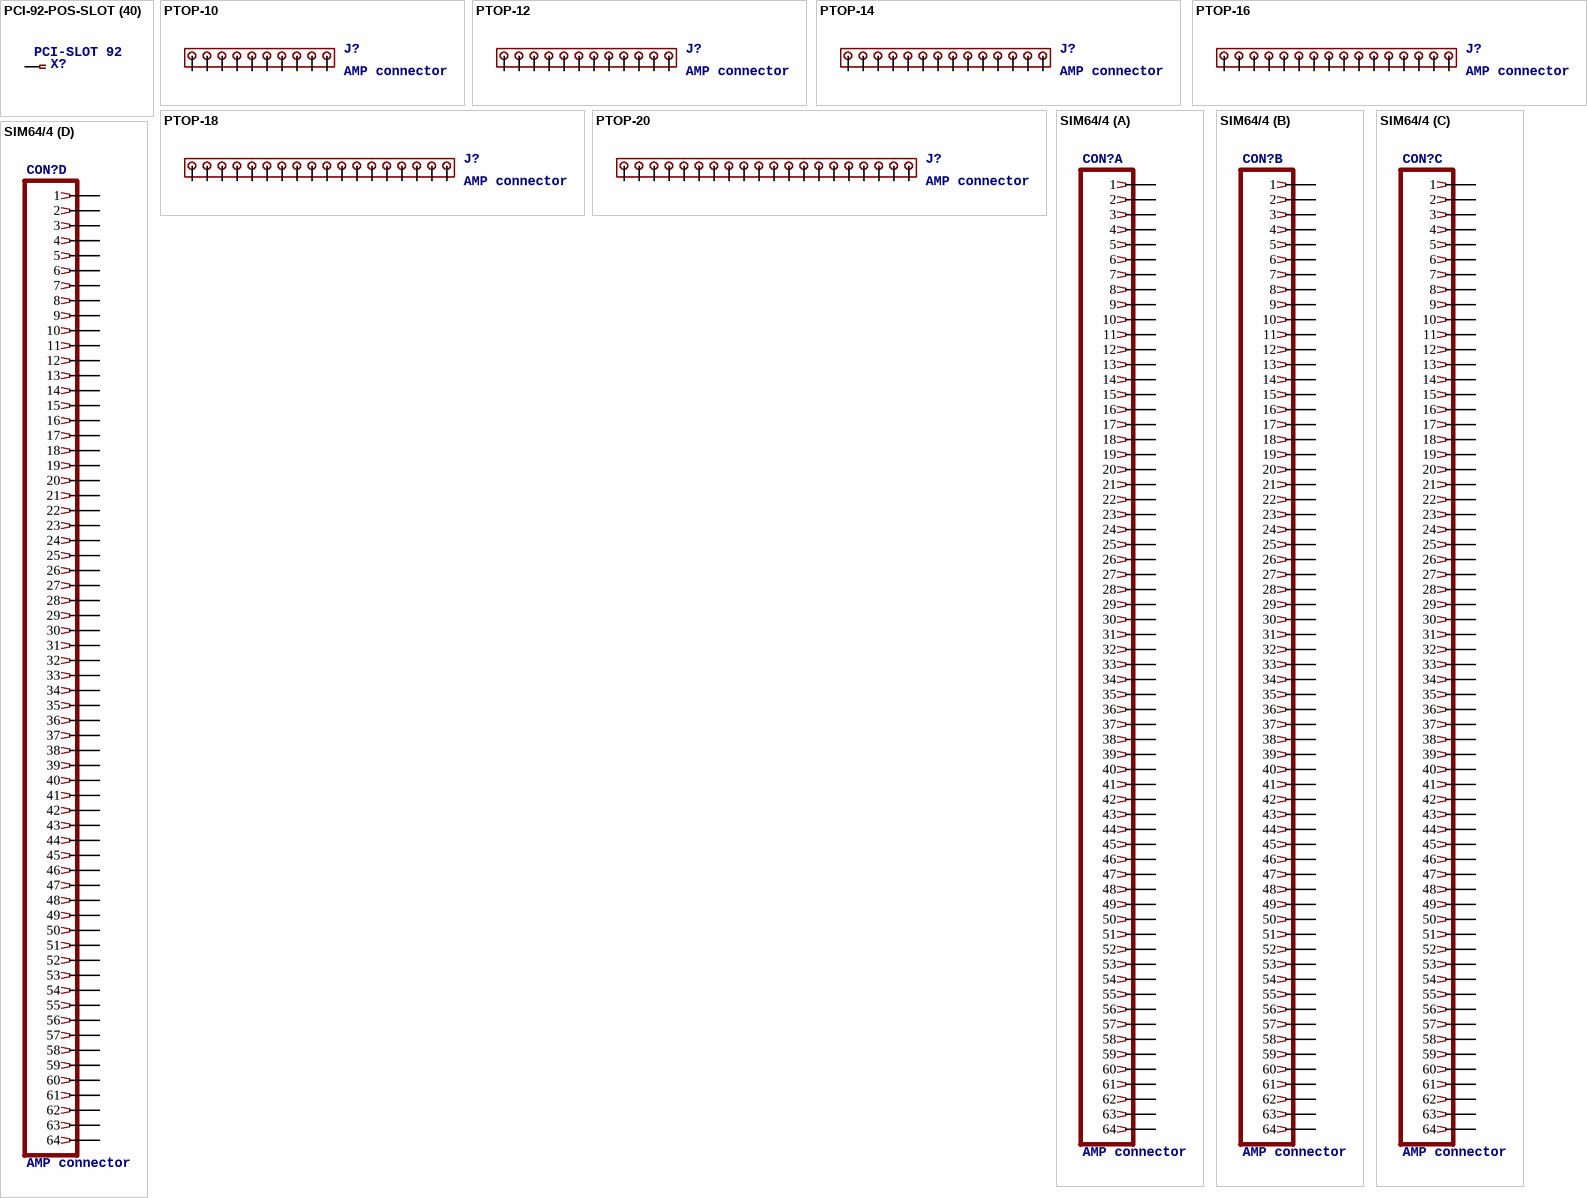
[diagram p29: symbols PCI-92-POS-SLOT to SIM64/4]

## PCI-92-POS-SLOT
designator X?, comment PCI-SLOT 92 Dual Position 0.05 Series Standard Edge   Source: http://catalog.tycoelectronics.com .. ENG_CD_145165_G.pdf
footprint PCI-SLOT-92
part A pins: 1
part B pins: 2 1
part C pins: 3 1
part D pins: 4 1
part E pins: 5 1
part F pins: 6 1
part G pins: 7 1
part H pins: 8 1
part I pins: 9 1
part J pins: 10 1
part K pins: 11 1
part L pins: 12 1
part M pins: 13 1
part N pins: 14 1
part O pins: 15 1
part P pins: 16 1
part Q pins: 17 1
part R pins: 18 1
part S pins: 19 1
part T pins: 20 1
part U pins: 21 1
part V pins: 22 1
part W pins: 23 1
part X pins: 24 1
part Y pins: 25 1
part Z pins: 26 1
part 27 pins: 27 1
part 28 pins: 28 1
part 29 pins: 29 1
part 30 pins: 30 1
part 31 pins: 31 1
part 32 pins: 32 1
part 33 pins: 33 1
part 34 pins: 34 1
part 35 pins: 35 1
part 36 pins: 36 1
part 37 pins: 37 1
part 38 pins: 38 1
part 39 pins: 39 1
part 40 pins: 40 1
part 41 pins: 41 1
part 42 pins: 42 1
part 43 pins: 43 1
part 44 pins: 44 1
part 45 pins: 45 1
part 46 pins: 46 1
part 47 pins: 47 1
part 48 pins: 48 1
part 49 pins: 49 1
part 50 pins: 50 1
part 51 pins: 51 1
part 52 pins: 52 1
part 53 pins: 53 1
part 54 pins: 54 1
part 55 pins: 55 1
part 56 pins: 56 1
part 57 pins: 57 1
part 58 pins: 58 1
part 59 pins: 59 1
part 60 pins: 60 1
part 61 pins: 61 1
part 62 pins: 62 1
part 63 pins: 63 1
part 64 pins: 64 1
part 65 pins: 65 1
part 66 pins: 66 1
part 67 pins: 67 1
part 68 pins: 68 1
part 69 pins: 69 1
part 70 pins: 70 1
part 71 pins: 71 1
part 72 pins: 72 1
part 73 pins: 73 1
part 74 pins: 74 1
part 75 pins: 75 1
part 76 pins: 76 1
part 77 pins: 77 1
part 78 pins: 78 1
part 79 pins: 79 1
part 80 pins: 80 1
part 81 pins: 81 1
part 82 pins: 82 1
part 83 pins: 83 1
part 84 pins: 84 1
part 85 pins: 85 1
part 86 pins: 86 1
part 87 pins: 87 1
part 88 pins: 88 1
part 89 pins: 89 1
part 90 pins: 90 1
part 91 pins: 91 1
part 92 pins: 92 1
part 93 pins: 93 1
part 94 pins: 94 1
part 95 pins: 95 1
part 96 pins: 96 1
part 97 pins: 97 1
part 98 pins: 98 1
part 99 pins: 99 1
part 100 pins: 100 1
part 101 pins: 101 1
part 102 pins: 102 1
part 103 pins: 103 1
part 104 pins: 104 1
part 105 pins: 105 1
part 106 pins: 106 1
part 107 pins: 107 1
part 108 pins: 108 1
part 109 pins: 109 1
part 110 pins: 110 1
part 111 pins: 111 1
part 112 pins: 112 1
part 113 pins: 113 1
part 114 pins: 114 1
part 115 pins: 115 1
part 116 pins: 116 1
part 117 pins: 117 1
part 118 pins: 118 1
part 119 pins: 119 1
part 120 pins: 120 1
part 121 pins: 121 1
part 122 pins: 122 1
part 123 pins: 123 1
part 124 pins: 124 1
part 125 pins: 125 1
part 126 pins: 126 1
part 127 pins: 127 1
part 128 pins: 128 1
part 129 pins: 129 1
part 130 pins: 130 1
part 131 pins: 131 1
part 132 pins: 132 1
part 133 pins: 133 1
part 134 pins: 134 1
part 135 pins: 135 1
part 136 pins: 136 1
part 137 pins: 137 1
part 138 pins: 138 1
part 139 pins: 139 1
part 140 pins: 140 1
part 141 pins: 141 1
part 142 pins: 142 1
part 143 pins: 143 1
part 144 pins: 144 1
part 145 pins: 145 1
part 146 pins: 146 1
part 147 pins: 147 1
part 148 pins: 148 1
part 149 pins: 149 1
part 150 pins: 150 1
part 151 pins: 151 1
part 152 pins: 152 1
part 153 pins: 153 1
part 154 pins: 154 1
part 155 pins: 155 1
part 156 pins: 156 1
part 157 pins: 157 1
part 158 pins: 158 1
part 159 pins: 159 1
part 160 pins: 160 1
part 161 pins: 161 1
part 162 pins: 162 1
part 163 pins: 163 1
part 164 pins: 164 1
part 165 pins: 165 1
part 166 pins: 166 1
part 167 pins: 167 1
part 168 pins: 168 1
part 169 pins: 169 1
part 170 pins: 170 1
part 171 pins: 171 1
part 172 pins: 172 1
part 173 pins: 173 1
part 174 pins: 174 1
part 175 pins: 175 1
part 176 pins: 176 1
part 177 pins: 177 1
part 178 pins: 178 1
part 179 pins: 179 1
part 180 pins: 180 1
part 181 pins: 181 1
part 182 pins: 182 1
part 183 pins: 183 1
part 184 pins: 184 1

## PTOP-10
designator J?, comment AMP connector
footprint PTOP-10
pins: 1, 2, 3, 4, 5, 6, 7, 8, 9, 10

## PTOP-12
designator J?, comment AMP connector
footprint PTOP-12
pins: 1, 2, 3, 4, 5, 6, 7, 8, 9, 10, 11, 12

## PTOP-14
designator J?, comment AMP connector
footprint PTOP-14
pins: 1, 2, 3, 4, 5, 6, 7, 8, 9, 10, 11, 12, 13, 14

## PTOP-16
designator J?, comment AMP connector
footprint PTOP-16
pins: 1, 2, 3, 4, 5, 6, 7, 8, 9, 10, 11, 12, 13, 14, 15, 16

## PTOP-18
designator J?, comment AMP connector
footprint PTOP-18
pins: 1, 2, 3, 4, 5, 6, 7, 8, 9, 10, 11, 12, 13, 14, 15, 16, 17, 18

## PTOP-20
designator J?, comment AMP connector
footprint PTOP-20
pins: 1, 2, 3, 4, 5, 6, 7, 8, 9, 10, 11, 12, 13, 14, 15, 16, 17, 18, 19, 20